# Altium integrated library AD DSP 16-Bit.IntLib: 146 symbols (part 6 of 7)
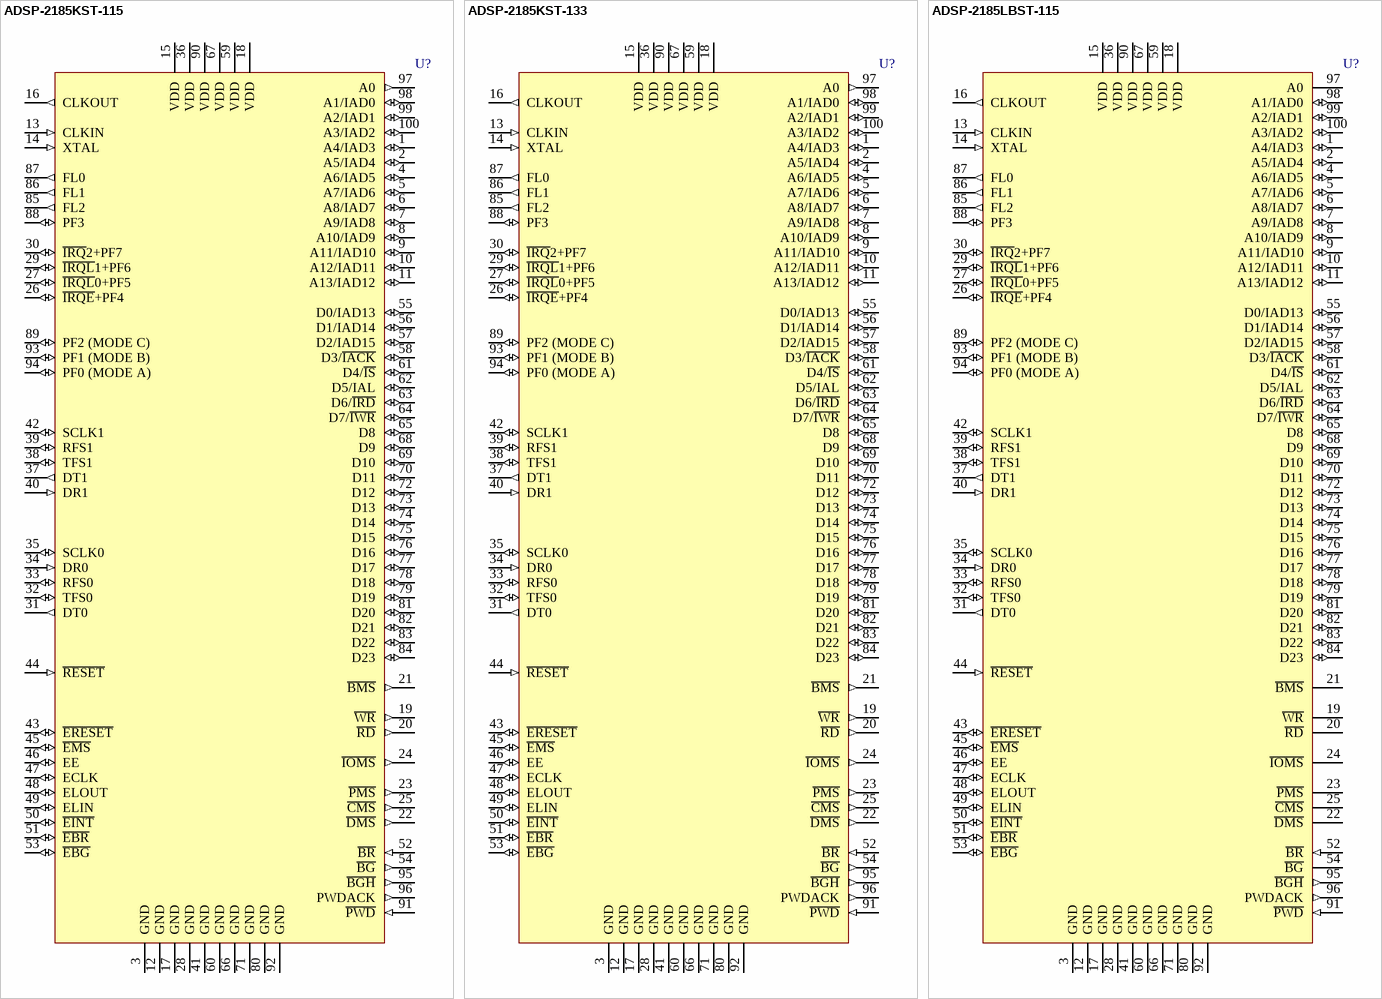
[diagram p50: symbols ADSP-2185KST-115 to ADSP-2185LBST-115]

## ADSP-2185KST-115
designator U?
33 MIPS, 5V, 2 Serial Ports, Host Port, 80 KB RAM; Published: 24-Aug-2001; LatestRevisionDate: 13-Apr-2006; LatestRevisionNote: IPC-7351 Footprint Added.; DatasheetVersion: 1997; PackageVersion: 2000; PackageReference: ST-100; Publisher: Altium Limited; PackageDescription: 100-Pin Thin Plastic Quad Flat Pack 0.5 mm Pitch; ComponentLink1Description: Manufacturer Link; ComponentLink1URL: http://www.analog.com/
footprint ST-100_N (Thin QFP, 100-Leads, Body 14x14mm, Pitch 0.5mm, IPC Medium Density)
footprint ST-100_L (Thin QFP, 100-Leads, Body 14x14mm, Pitch 0.5mm, IPC High Density)
footprint ST-100_M (Thin QFP, 100-Leads, Body 14x14mm, Pitch 0.5mm, IPC Low Density)
3D model 2185-ST100 (100-Pin Thin Plastic Quad Flat Pack 0.5 mm Pitch)
pins: 1 A4/IAD3 (io), 2 A5/IAD4 (io), 3 GND (power), 4 A6/IAD5 (io), 5 A7/IAD6 (io), 6 A8/IAD7 (io), 7 A9/IAD8 (io), 8 A10/IAD9 (io), 9 A11/IAD10 (io), 10 A12/IAD11 (io), 11 A13/IAD12 (io), 12 GND (power), 13 CLKIN (in), 14 XTAL (in), 15 VDD (power), 16 CLKOUT (out), 17 GND (power), 18 VDD (power), 19 ~{WR} (out), 20 ~{RD} (out), 21 ~{BMS} (out), 22 ~{DMS} (out), 23 ~{PMS} (out), 24 ~{IOMS} (out), 25 ~{CMS} (out), 26 ~{IRQE}+PF4 (io), 27 ~{IRQL}0+PF5 (io), 28 GND (power), 29 ~{IRQL}1+PF6 (io), 30 ~{IRQ}2+PF7 (io), 31 DT0 (out), 32 TFS0 (io), 33 RFS0 (io), 34 DR0 (in), 35 SCLK0 (io), 36 VDD (power), 37 DT1 (out), 38 TFS1 (io), 39 RFS1 (io), 40 DR1 (in), 41 GND (power), 42 SCLK1 (io), 43 ~{ERESET} (io), 44 ~{RESET} (in), 45 ~{EMS} (io), 46 EE (io), 47 ECLK (io), 48 ELOUT (io), 49 ELIN (io), 50 ~{EINT} (io), 51 ~{EBR} (io), 52 ~{BR} (in), 53 ~{EBG} (io), 54 ~{BG} (out), 55 D0/IAD13 (io), 56 D1/IAD14 (io), 57 D2/IAD15 (io), 58 D3/~{IACK} (io), 59 VDD (power), 60 GND (power), 61 D4/~{IS} (io), 62 D5/IAL (io), 63 D6/~{IRD} (io), 64 D7/~{IWR} (io), 65 D8 (io), 66 GND (power), 67 VDD (power), 68 D9 (io), 69 D10 (io), 70 D11 (io), 71 GND (power), 72 D12 (io), 73 D13 (io), 74 D14 (io), 75 D15 (io), 76 D16 (io), 77 D17 (io), 78 D18 (io), 79 D19 (io), 80 GND (power), 81 D20 (io), 82 D21 (io), 83 D22 (io), 84 D23 (io), 85 FL2 (out), 86 FL1 (out), 87 FL0 (out), 88 PF3 (io), 89 PF2 (MODE C) (io), 90 VDD (power), 91 ~{PWD} (in), 92 GND (power), 93 PF1 (MODE B) (io), 94 PF0 (MODE A) (io), 95 ~{BGH} (out), 96 PWDACK (out), 97 A0 (out), 98 A1/IAD0 (io), 99 A2/IAD1 (io), 100 A3/IAD2 (io)

## ADSP-2185KST-133
designator U?
33 MIPS, 5V, 2 Serial Ports, Host Port, 80 KB RAM; Published: 24-Aug-2001; LatestRevisionDate: 13-Apr-2006; LatestRevisionNote: IPC-7351 Footprint Added.; DatasheetVersion: 1997; PackageVersion: 2000; PackageReference: ST-100; Publisher: Altium Limited; PackageDescription: 100-Pin Thin Plastic Quad Flat Pack 0.5 mm Pitch; ComponentLink1Description: Manufacturer Link; ComponentLink1URL: http://www.analog.com/
footprint ST-100_N (Thin QFP, 100-Leads, Body 14x14mm, Pitch 0.5mm, IPC Medium Density)
footprint ST-100_L (Thin QFP, 100-Leads, Body 14x14mm, Pitch 0.5mm, IPC High Density)
footprint ST-100_M (Thin QFP, 100-Leads, Body 14x14mm, Pitch 0.5mm, IPC Low Density)
3D model 2185-ST100 (100-Pin Thin Plastic Quad Flat Pack 0.5 mm Pitch)
pins: 1 A4/IAD3 (io), 2 A5/IAD4 (io), 3 GND (power), 4 A6/IAD5 (io), 5 A7/IAD6 (io), 6 A8/IAD7 (io), 7 A9/IAD8 (io), 8 A10/IAD9 (io), 9 A11/IAD10 (io), 10 A12/IAD11 (io), 11 A13/IAD12 (io), 12 GND (power), 13 CLKIN (in), 14 XTAL (in), 15 VDD (power), 16 CLKOUT (out), 17 GND (power), 18 VDD (power), 19 ~{WR} (out), 20 ~{RD} (out), 21 ~{BMS} (out), 22 ~{DMS} (out), 23 ~{PMS} (out), 24 ~{IOMS} (out), 25 ~{CMS} (out), 26 ~{IRQE}+PF4 (io), 27 ~{IRQL}0+PF5 (io), 28 GND (power), 29 ~{IRQL}1+PF6 (io), 30 ~{IRQ}2+PF7 (io), 31 DT0 (out), 32 TFS0 (io), 33 RFS0 (io), 34 DR0 (in), 35 SCLK0 (io), 36 VDD (power), 37 DT1 (out), 38 TFS1 (io), 39 RFS1 (io), 40 DR1 (in), 41 GND (power), 42 SCLK1 (io), 43 ~{ERESET} (io), 44 ~{RESET} (in), 45 ~{EMS} (io), 46 EE (io), 47 ECLK (io), 48 ELOUT (io), 49 ELIN (io), 50 ~{EINT} (io), 51 ~{EBR} (io), 52 ~{BR} (in), 53 ~{EBG} (io), 54 ~{BG} (out), 55 D0/IAD13 (io), 56 D1/IAD14 (io), 57 D2/IAD15 (io), 58 D3/~{IACK} (io), 59 VDD (power), 60 GND (power), 61 D4/~{IS} (io), 62 D5/IAL (io), 63 D6/~{IRD} (io), 64 D7/~{IWR} (io), 65 D8 (io), 66 GND (power), 67 VDD (power), 68 D9 (io), 69 D10 (io), 70 D11 (io), 71 GND (power), 72 D12 (io), 73 D13 (io), 74 D14 (io), 75 D15 (io), 76 D16 (io), 77 D17 (io), 78 D18 (io), 79 D19 (io), 80 GND (power), 81 D20 (io), 82 D21 (io), 83 D22 (io), 84 D23 (io), 85 FL2 (out), 86 FL1 (out), 87 FL0 (out), 88 PF3 (io), 89 PF2 (MODE C) (io), 90 VDD (power), 91 ~{PWD} (in), 92 GND (power), 93 PF1 (MODE B) (io), 94 PF0 (MODE A) (io), 95 ~{BGH} (out), 96 PWDACK (out), 97 A0 (out), 98 A1/IAD0 (io), 99 A2/IAD1 (io), 100 A3/IAD2 (io)

## ADSP-2185LBST-115
designator U?
52 MIPS, 3.3V, 2 Serial Ports, Host Port, 80 KB RAM; Published: 24-Aug-2001; LatestRevisionDate: 13-Apr-2006; LatestRevisionNote: IPC-7351 Footprint Added.; DatasheetVersion: 1998; PackageVersion: 2000; PackageReference: ST-100; Publisher: Altium Limited; PackageDescription: 100-Pin Thin Plastic Quad Flat Pack 0.5 mm Pitch; ComponentLink1Description: Manufacturer Link; ComponentLink1URL: http://www.analog.com/; ComponentLink2Description: Datasheet; ComponentLink2URL: http://www.analog.com/UploadedFiles/Data_Sheets/131820591231341383244687ADSP_2185L_a.pdf
footprint ST-100_N (Thin QFP, 100-Leads, Body 14x14mm, Pitch 0.5mm, IPC Medium Density)
footprint ST-100_L (Thin QFP, 100-Leads, Body 14x14mm, Pitch 0.5mm, IPC High Density)
footprint ST-100_M (Thin QFP, 100-Leads, Body 14x14mm, Pitch 0.5mm, IPC Low Density)
3D model 2185L-ST100 (100-Pin Thin Plastic Quad Flat Pack 0.5 mm Pitch)
pins: 1 A4/IAD3 (io), 2 A5/IAD4 (io), 3 GND (power), 4 A6/IAD5 (io), 5 A7/IAD6 (io), 6 A8/IAD7 (io), 7 A9/IAD8 (io), 8 A10/IAD9 (io), 9 A11/IAD10 (io), 10 A12/IAD11 (io), 11 A13/IAD12 (io), 12 GND (power), 13 CLKIN (in), 14 XTAL (in), 15 VDD (power), 16 CLKOUT (out), 17 GND (power), 18 VDD (power), 19 ~{WR} (hiz), 20 ~{RD} (hiz), 21 ~{BMS} (hiz), 22 ~{DMS} (hiz), 23 ~{PMS} (hiz), 24 ~{IOMS} (hiz), 25 ~{CMS} (hiz), 26 ~{IRQE}+PF4 (io), 27 ~{IRQL}0+PF5 (io), 28 GND (power), 29 ~{IRQL}1+PF6 (io), 30 ~{IRQ}2+PF7 (io), 31 DT0 (out), 32 TFS0 (io), 33 RFS0 (io), 34 DR0 (in), 35 SCLK0 (io), 36 VDD (power), 37 DT1 (out), 38 TFS1 (io), 39 RFS1 (io), 40 DR1 (in), 41 GND (power), 42 SCLK1 (io), 43 ~{ERESET} (io), 44 ~{RESET} (in), 45 ~{EMS} (io), 46 EE (io), 47 ECLK (io), 48 ELOUT (io), 49 ELIN (io), 50 ~{EINT} (io), 51 ~{EBR} (io), 52 ~{BR} (in), 53 ~{EBG} (io), 54 ~{BG} (hiz), 55 D0/IAD13 (io), 56 D1/IAD14 (io), 57 D2/IAD15 (io), 58 D3/~{IACK} (io), 59 VDD (power), 60 GND (power), 61 D4/~{IS} (io), 62 D5/IAL (io), 63 D6/~{IRD} (io), 64 D7/~{IWR} (io), 65 D8 (io), 66 GND (power), 67 VDD (power), 68 D9 (io), 69 D10 (io), 70 D11 (io), 71 GND (power), 72 D12 (io), 73 D13 (io), 74 D14 (io), 75 D15 (io), 76 D16 (io), 77 D17 (io), 78 D18 (io), 79 D19 (io), 80 GND (power), 81 D20 (io), 82 D21 (io), 83 D22 (io), 84 D23 (io), 85 FL2 (out), 86 FL1 (out), 87 FL0 (out), 88 PF3 (io), 89 PF2 (MODE C) (io), 90 VDD (power), 91 ~{PWD} (in), 92 GND (power), 93 PF1 (MODE B) (io), 94 PF0 (MODE A) (io), 95 ~{BGH} (out), 96 PWDACK (out), 97 A0 (hiz), 98 A1/IAD0 (io), 99 A2/IAD1 (io), 100 A3/IAD2 (io)

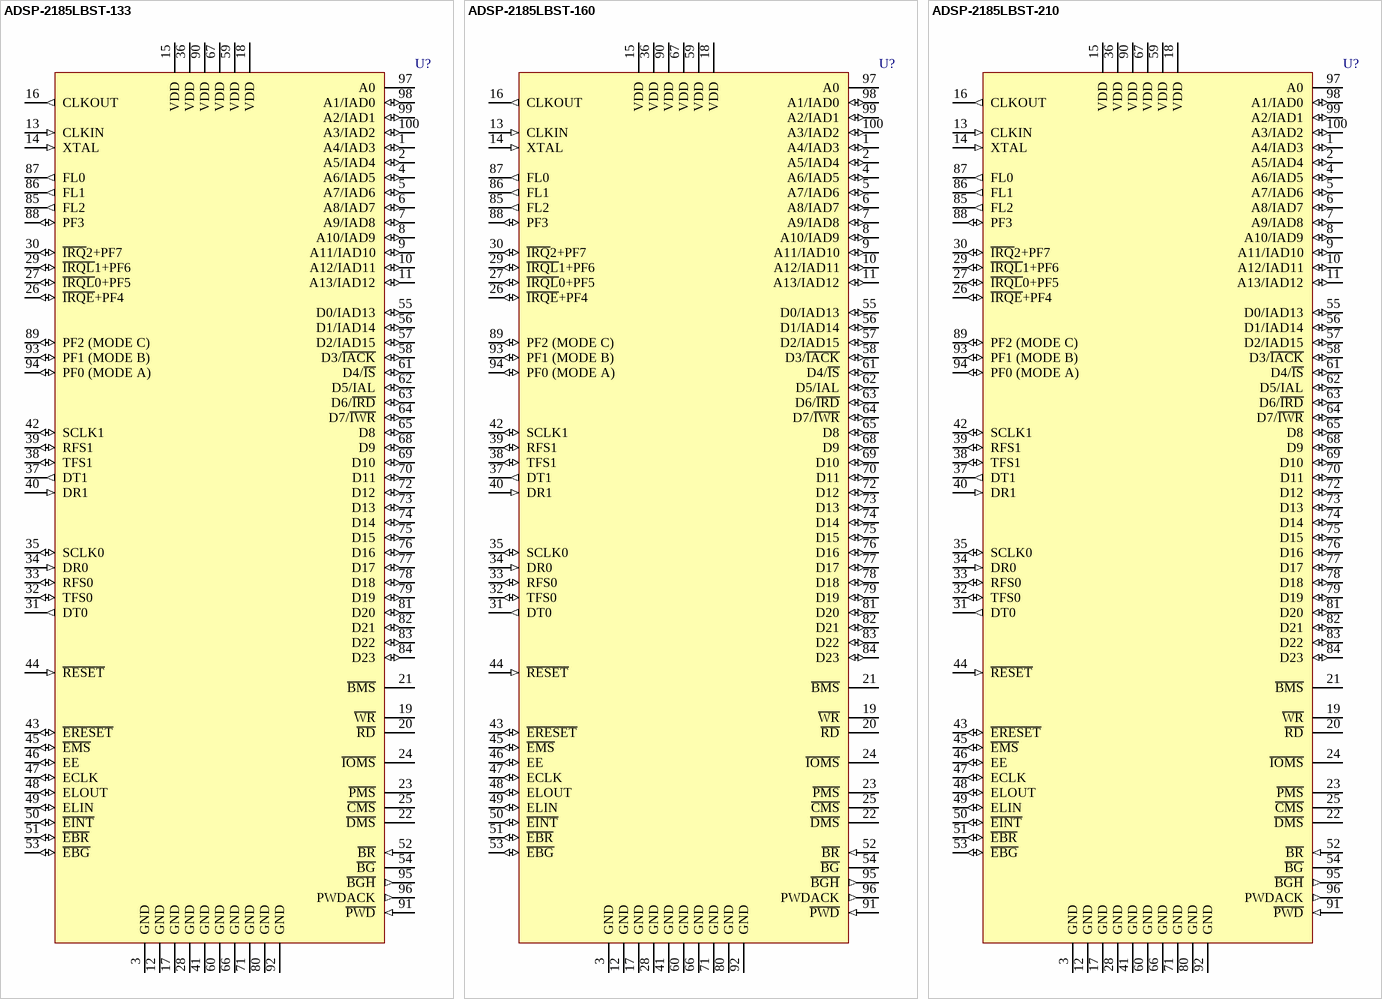
[diagram p33: symbols ADSP-2185LBST-133 to ADSP-2185LBST-210]

## ADSP-2185LBST-133
designator U?
52 MIPS, 3.3V, 2 Serial Ports, Host Port, 80 KB RAM; Published: 24-Aug-2001; LatestRevisionDate: 13-Apr-2006; LatestRevisionNote: IPC-7351 Footprint Added.; DatasheetVersion: 1998; PackageVersion: 2000; PackageReference: ST-100; Publisher: Altium Limited; PackageDescription: 100-Pin Thin Plastic Quad Flat Pack 0.5 mm Pitch; ComponentLink1Description: Manufacturer Link; ComponentLink1URL: http://www.analog.com/; ComponentLink2Description: Datasheet; ComponentLink2URL: http://www.analog.com/UploadedFiles/Data_Sheets/131820591231341383244687ADSP_2185L_a.pdf
footprint ST-100_N (Thin QFP, 100-Leads, Body 14x14mm, Pitch 0.5mm, IPC Medium Density)
footprint ST-100_L (Thin QFP, 100-Leads, Body 14x14mm, Pitch 0.5mm, IPC High Density)
footprint ST-100_M (Thin QFP, 100-Leads, Body 14x14mm, Pitch 0.5mm, IPC Low Density)
3D model 2185L-ST100 (100-Pin Thin Plastic Quad Flat Pack 0.5 mm Pitch)
pins: 1 A4/IAD3 (io), 2 A5/IAD4 (io), 3 GND (power), 4 A6/IAD5 (io), 5 A7/IAD6 (io), 6 A8/IAD7 (io), 7 A9/IAD8 (io), 8 A10/IAD9 (io), 9 A11/IAD10 (io), 10 A12/IAD11 (io), 11 A13/IAD12 (io), 12 GND (power), 13 CLKIN (in), 14 XTAL (in), 15 VDD (power), 16 CLKOUT (out), 17 GND (power), 18 VDD (power), 19 ~{WR} (hiz), 20 ~{RD} (hiz), 21 ~{BMS} (hiz), 22 ~{DMS} (hiz), 23 ~{PMS} (hiz), 24 ~{IOMS} (hiz), 25 ~{CMS} (hiz), 26 ~{IRQE}+PF4 (io), 27 ~{IRQL}0+PF5 (io), 28 GND (power), 29 ~{IRQL}1+PF6 (io), 30 ~{IRQ}2+PF7 (io), 31 DT0 (out), 32 TFS0 (io), 33 RFS0 (io), 34 DR0 (in), 35 SCLK0 (io), 36 VDD (power), 37 DT1 (out), 38 TFS1 (io), 39 RFS1 (io), 40 DR1 (in), 41 GND (power), 42 SCLK1 (io), 43 ~{ERESET} (io), 44 ~{RESET} (in), 45 ~{EMS} (io), 46 EE (io), 47 ECLK (io), 48 ELOUT (io), 49 ELIN (io), 50 ~{EINT} (io), 51 ~{EBR} (io), 52 ~{BR} (in), 53 ~{EBG} (io), 54 ~{BG} (hiz), 55 D0/IAD13 (io), 56 D1/IAD14 (io), 57 D2/IAD15 (io), 58 D3/~{IACK} (io), 59 VDD (power), 60 GND (power), 61 D4/~{IS} (io), 62 D5/IAL (io), 63 D6/~{IRD} (io), 64 D7/~{IWR} (io), 65 D8 (io), 66 GND (power), 67 VDD (power), 68 D9 (io), 69 D10 (io), 70 D11 (io), 71 GND (power), 72 D12 (io), 73 D13 (io), 74 D14 (io), 75 D15 (io), 76 D16 (io), 77 D17 (io), 78 D18 (io), 79 D19 (io), 80 GND (power), 81 D20 (io), 82 D21 (io), 83 D22 (io), 84 D23 (io), 85 FL2 (out), 86 FL1 (out), 87 FL0 (out), 88 PF3 (io), 89 PF2 (MODE C) (io), 90 VDD (power), 91 ~{PWD} (in), 92 GND (power), 93 PF1 (MODE B) (io), 94 PF0 (MODE A) (io), 95 ~{BGH} (out), 96 PWDACK (out), 97 A0 (hiz), 98 A1/IAD0 (io), 99 A2/IAD1 (io), 100 A3/IAD2 (io)

## ADSP-2185LBST-160
designator U?
52 MIPS, 3.3V, 2 Serial Ports, Host Port, 80 KB RAM; Published: 24-Aug-2001; LatestRevisionDate: 13-Apr-2006; LatestRevisionNote: IPC-7351 Footprint Added.; DatasheetVersion: 1998; PackageVersion: 2000; PackageReference: ST-100; Publisher: Altium Limited; PackageDescription: 100-Pin Thin Plastic Quad Flat Pack 0.5 mm Pitch; ComponentLink1Description: Manufacturer Link; ComponentLink1URL: http://www.analog.com/; ComponentLink2Description: Datasheet; ComponentLink2URL: http://www.analog.com/UploadedFiles/Data_Sheets/131820591231341383244687ADSP_2185L_a.pdf
footprint ST-100_N (Thin QFP, 100-Leads, Body 14x14mm, Pitch 0.5mm, IPC Medium Density)
footprint ST-100_L (Thin QFP, 100-Leads, Body 14x14mm, Pitch 0.5mm, IPC High Density)
footprint ST-100_M (Thin QFP, 100-Leads, Body 14x14mm, Pitch 0.5mm, IPC Low Density)
3D model 2185L-ST100 (100-Pin Thin Plastic Quad Flat Pack 0.5 mm Pitch)
pins: 1 A4/IAD3 (io), 2 A5/IAD4 (io), 3 GND (power), 4 A6/IAD5 (io), 5 A7/IAD6 (io), 6 A8/IAD7 (io), 7 A9/IAD8 (io), 8 A10/IAD9 (io), 9 A11/IAD10 (io), 10 A12/IAD11 (io), 11 A13/IAD12 (io), 12 GND (power), 13 CLKIN (in), 14 XTAL (in), 15 VDD (power), 16 CLKOUT (out), 17 GND (power), 18 VDD (power), 19 ~{WR} (hiz), 20 ~{RD} (hiz), 21 ~{BMS} (hiz), 22 ~{DMS} (hiz), 23 ~{PMS} (hiz), 24 ~{IOMS} (hiz), 25 ~{CMS} (hiz), 26 ~{IRQE}+PF4 (io), 27 ~{IRQL}0+PF5 (io), 28 GND (power), 29 ~{IRQL}1+PF6 (io), 30 ~{IRQ}2+PF7 (io), 31 DT0 (out), 32 TFS0 (io), 33 RFS0 (io), 34 DR0 (in), 35 SCLK0 (io), 36 VDD (power), 37 DT1 (out), 38 TFS1 (io), 39 RFS1 (io), 40 DR1 (in), 41 GND (power), 42 SCLK1 (io), 43 ~{ERESET} (io), 44 ~{RESET} (in), 45 ~{EMS} (io), 46 EE (io), 47 ECLK (io), 48 ELOUT (io), 49 ELIN (io), 50 ~{EINT} (io), 51 ~{EBR} (io), 52 ~{BR} (in), 53 ~{EBG} (io), 54 ~{BG} (hiz), 55 D0/IAD13 (io), 56 D1/IAD14 (io), 57 D2/IAD15 (io), 58 D3/~{IACK} (io), 59 VDD (power), 60 GND (power), 61 D4/~{IS} (io), 62 D5/IAL (io), 63 D6/~{IRD} (io), 64 D7/~{IWR} (io), 65 D8 (io), 66 GND (power), 67 VDD (power), 68 D9 (io), 69 D10 (io), 70 D11 (io), 71 GND (power), 72 D12 (io), 73 D13 (io), 74 D14 (io), 75 D15 (io), 76 D16 (io), 77 D17 (io), 78 D18 (io), 79 D19 (io), 80 GND (power), 81 D20 (io), 82 D21 (io), 83 D22 (io), 84 D23 (io), 85 FL2 (out), 86 FL1 (out), 87 FL0 (out), 88 PF3 (io), 89 PF2 (MODE C) (io), 90 VDD (power), 91 ~{PWD} (in), 92 GND (power), 93 PF1 (MODE B) (io), 94 PF0 (MODE A) (io), 95 ~{BGH} (out), 96 PWDACK (out), 97 A0 (hiz), 98 A1/IAD0 (io), 99 A2/IAD1 (io), 100 A3/IAD2 (io)

## ADSP-2185LBST-210
designator U?
52 MIPS, 3.3V, 2 Serial Ports, Host Port, 80 KB RAM; Published: 24-Aug-2001; LatestRevisionDate: 13-Apr-2006; LatestRevisionNote: IPC-7351 Footprint Added.; DatasheetVersion: 1998; PackageVersion: 2000; PackageReference: ST-100; Publisher: Altium Limited; PackageDescription: 100-Pin Thin Plastic Quad Flat Pack 0.5 mm Pitch; ComponentLink1Description: Manufacturer Link; ComponentLink1URL: http://www.analog.com/; ComponentLink2Description: Datasheet; ComponentLink2URL: http://www.analog.com/UploadedFiles/Data_Sheets/131820591231341383244687ADSP_2185L_a.pdf
footprint ST-100_N (Thin QFP, 100-Leads, Body 14x14mm, Pitch 0.5mm, IPC Medium Density)
footprint ST-100_L (Thin QFP, 100-Leads, Body 14x14mm, Pitch 0.5mm, IPC High Density)
footprint ST-100_M (Thin QFP, 100-Leads, Body 14x14mm, Pitch 0.5mm, IPC Low Density)
3D model 2185L-ST100 (100-Pin Thin Plastic Quad Flat Pack 0.5 mm Pitch)
pins: 1 A4/IAD3 (io), 2 A5/IAD4 (io), 3 GND (power), 4 A6/IAD5 (io), 5 A7/IAD6 (io), 6 A8/IAD7 (io), 7 A9/IAD8 (io), 8 A10/IAD9 (io), 9 A11/IAD10 (io), 10 A12/IAD11 (io), 11 A13/IAD12 (io), 12 GND (power), 13 CLKIN (in), 14 XTAL (in), 15 VDD (power), 16 CLKOUT (out), 17 GND (power), 18 VDD (power), 19 ~{WR} (hiz), 20 ~{RD} (hiz), 21 ~{BMS} (hiz), 22 ~{DMS} (hiz), 23 ~{PMS} (hiz), 24 ~{IOMS} (hiz), 25 ~{CMS} (hiz), 26 ~{IRQE}+PF4 (io), 27 ~{IRQL}0+PF5 (io), 28 GND (power), 29 ~{IRQL}1+PF6 (io), 30 ~{IRQ}2+PF7 (io), 31 DT0 (out), 32 TFS0 (io), 33 RFS0 (io), 34 DR0 (in), 35 SCLK0 (io), 36 VDD (power), 37 DT1 (out), 38 TFS1 (io), 39 RFS1 (io), 40 DR1 (in), 41 GND (power), 42 SCLK1 (io), 43 ~{ERESET} (io), 44 ~{RESET} (in), 45 ~{EMS} (io), 46 EE (io), 47 ECLK (io), 48 ELOUT (io), 49 ELIN (io), 50 ~{EINT} (io), 51 ~{EBR} (io), 52 ~{BR} (in), 53 ~{EBG} (io), 54 ~{BG} (hiz), 55 D0/IAD13 (io), 56 D1/IAD14 (io), 57 D2/IAD15 (io), 58 D3/~{IACK} (io), 59 VDD (power), 60 GND (power), 61 D4/~{IS} (io), 62 D5/IAL (io), 63 D6/~{IRD} (io), 64 D7/~{IWR} (io), 65 D8 (io), 66 GND (power), 67 VDD (power), 68 D9 (io), 69 D10 (io), 70 D11 (io), 71 GND (power), 72 D12 (io), 73 D13 (io), 74 D14 (io), 75 D15 (io), 76 D16 (io), 77 D17 (io), 78 D18 (io), 79 D19 (io), 80 GND (power), 81 D20 (io), 82 D21 (io), 83 D22 (io), 84 D23 (io), 85 FL2 (out), 86 FL1 (out), 87 FL0 (out), 88 PF3 (io), 89 PF2 (MODE C) (io), 90 VDD (power), 91 ~{PWD} (in), 92 GND (power), 93 PF1 (MODE B) (io), 94 PF0 (MODE A) (io), 95 ~{BGH} (out), 96 PWDACK (out), 97 A0 (hiz), 98 A1/IAD0 (io), 99 A2/IAD1 (io), 100 A3/IAD2 (io)

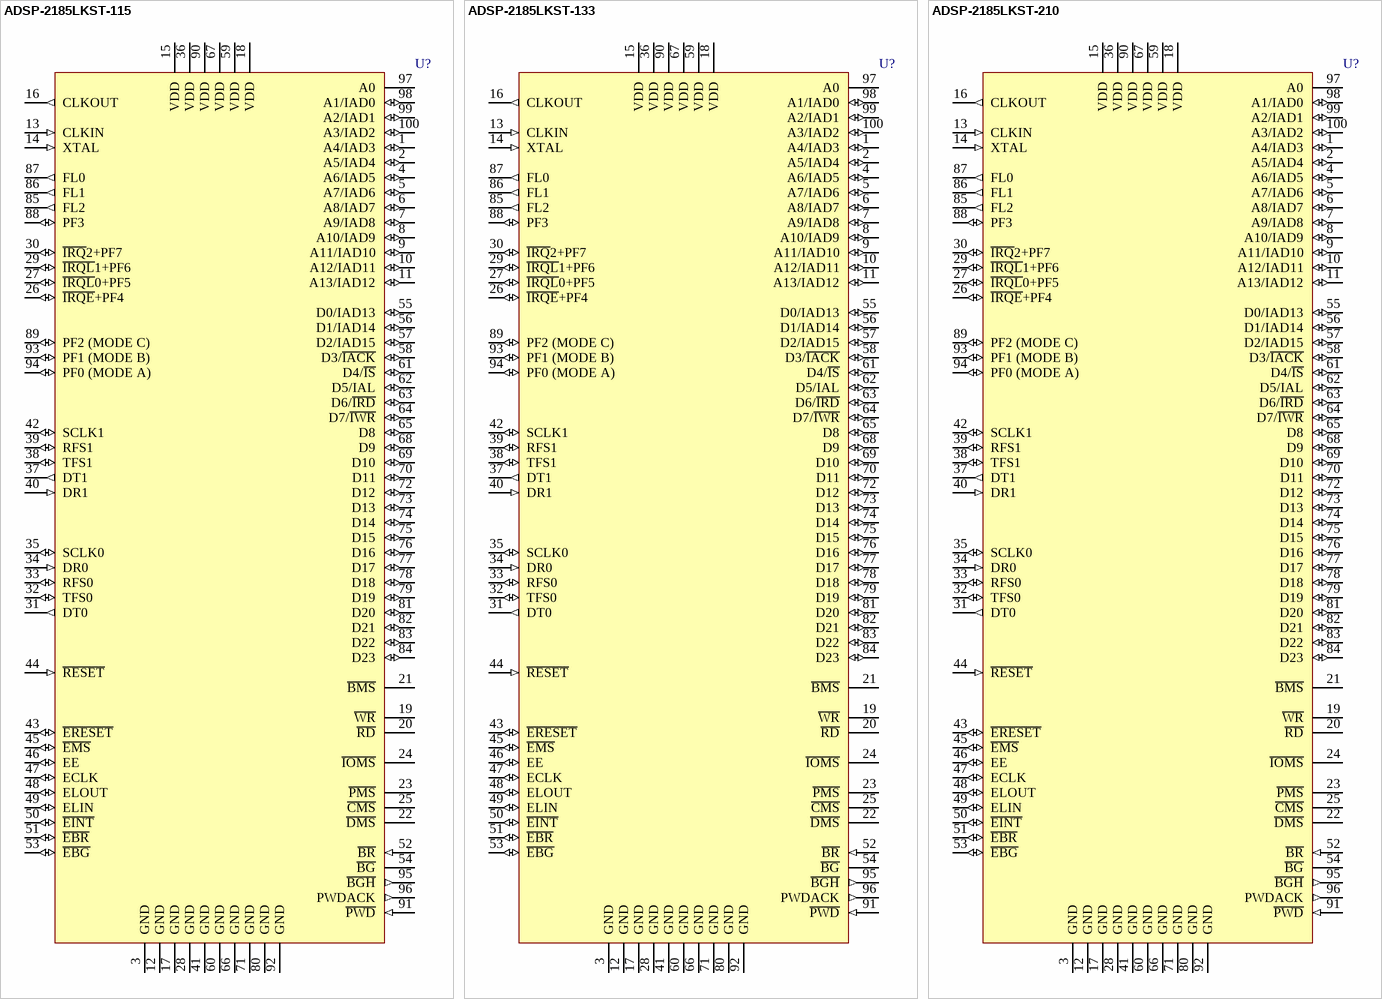
[diagram p34: symbols ADSP-2185LKST-115 to ADSP-2185LKST-210]

## ADSP-2185LKST-115
designator U?
52 MIPS, 3.3V, 2 Serial Ports, Host Port, 80 KB RAM; Published: 24-Aug-2001; LatestRevisionDate: 13-Apr-2006; LatestRevisionNote: IPC-7351 Footprint Added.; DatasheetVersion: 1998; PackageVersion: 2000; PackageReference: ST-100; Publisher: Altium Limited; PackageDescription: 100-Pin Thin Plastic Quad Flat Pack 0.5 mm Pitch; ComponentLink1Description: Manufacturer Link; ComponentLink1URL: http://www.analog.com/; ComponentLink2Description: Datasheet; ComponentLink2URL: http://www.analog.com/UploadedFiles/Data_Sheets/131820591231341383244687ADSP_2185L_a.pdf
footprint ST-100_N (Thin QFP, 100-Leads, Body 14x14mm, Pitch 0.5mm, IPC Medium Density)
footprint ST-100_L (Thin QFP, 100-Leads, Body 14x14mm, Pitch 0.5mm, IPC High Density)
footprint ST-100_M (Thin QFP, 100-Leads, Body 14x14mm, Pitch 0.5mm, IPC Low Density)
3D model 2185L-ST100 (100-Pin Thin Plastic Quad Flat Pack 0.5 mm Pitch)
pins: 1 A4/IAD3 (io), 2 A5/IAD4 (io), 3 GND (power), 4 A6/IAD5 (io), 5 A7/IAD6 (io), 6 A8/IAD7 (io), 7 A9/IAD8 (io), 8 A10/IAD9 (io), 9 A11/IAD10 (io), 10 A12/IAD11 (io), 11 A13/IAD12 (io), 12 GND (power), 13 CLKIN (in), 14 XTAL (in), 15 VDD (power), 16 CLKOUT (out), 17 GND (power), 18 VDD (power), 19 ~{WR} (hiz), 20 ~{RD} (hiz), 21 ~{BMS} (hiz), 22 ~{DMS} (hiz), 23 ~{PMS} (hiz), 24 ~{IOMS} (hiz), 25 ~{CMS} (hiz), 26 ~{IRQE}+PF4 (io), 27 ~{IRQL}0+PF5 (io), 28 GND (power), 29 ~{IRQL}1+PF6 (io), 30 ~{IRQ}2+PF7 (io), 31 DT0 (out), 32 TFS0 (io), 33 RFS0 (io), 34 DR0 (in), 35 SCLK0 (io), 36 VDD (power), 37 DT1 (out), 38 TFS1 (io), 39 RFS1 (io), 40 DR1 (in), 41 GND (power), 42 SCLK1 (io), 43 ~{ERESET} (io), 44 ~{RESET} (in), 45 ~{EMS} (io), 46 EE (io), 47 ECLK (io), 48 ELOUT (io), 49 ELIN (io), 50 ~{EINT} (io), 51 ~{EBR} (io), 52 ~{BR} (in), 53 ~{EBG} (io), 54 ~{BG} (hiz), 55 D0/IAD13 (io), 56 D1/IAD14 (io), 57 D2/IAD15 (io), 58 D3/~{IACK} (io), 59 VDD (power), 60 GND (power), 61 D4/~{IS} (io), 62 D5/IAL (io), 63 D6/~{IRD} (io), 64 D7/~{IWR} (io), 65 D8 (io), 66 GND (power), 67 VDD (power), 68 D9 (io), 69 D10 (io), 70 D11 (io), 71 GND (power), 72 D12 (io), 73 D13 (io), 74 D14 (io), 75 D15 (io), 76 D16 (io), 77 D17 (io), 78 D18 (io), 79 D19 (io), 80 GND (power), 81 D20 (io), 82 D21 (io), 83 D22 (io), 84 D23 (io), 85 FL2 (out), 86 FL1 (out), 87 FL0 (out), 88 PF3 (io), 89 PF2 (MODE C) (io), 90 VDD (power), 91 ~{PWD} (in), 92 GND (power), 93 PF1 (MODE B) (io), 94 PF0 (MODE A) (io), 95 ~{BGH} (out), 96 PWDACK (out), 97 A0 (hiz), 98 A1/IAD0 (io), 99 A2/IAD1 (io), 100 A3/IAD2 (io)

## ADSP-2185LKST-133
designator U?
52 MIPS, 3.3V, 2 Serial Ports, Host Port, 80 KB RAM; Published: 24-Aug-2001; LatestRevisionDate: 13-Apr-2006; LatestRevisionNote: IPC-7351 Footprint Added.; DatasheetVersion: 1998; PackageVersion: 2000; PackageReference: ST-100; Publisher: Altium Limited; PackageDescription: 100-Pin Thin Plastic Quad Flat Pack 0.5 mm Pitch; ComponentLink1Description: Manufacturer Link; ComponentLink1URL: http://www.analog.com/; ComponentLink2Description: Datasheet; ComponentLink2URL: http://www.analog.com/UploadedFiles/Data_Sheets/131820591231341383244687ADSP_2185L_a.pdf
footprint ST-100_N (Thin QFP, 100-Leads, Body 14x14mm, Pitch 0.5mm, IPC Medium Density)
footprint ST-100_L (Thin QFP, 100-Leads, Body 14x14mm, Pitch 0.5mm, IPC High Density)
footprint ST-100_M (Thin QFP, 100-Leads, Body 14x14mm, Pitch 0.5mm, IPC Low Density)
3D model 2185L-ST100 (100-Pin Thin Plastic Quad Flat Pack 0.5 mm Pitch)
pins: 1 A4/IAD3 (io), 2 A5/IAD4 (io), 3 GND (power), 4 A6/IAD5 (io), 5 A7/IAD6 (io), 6 A8/IAD7 (io), 7 A9/IAD8 (io), 8 A10/IAD9 (io), 9 A11/IAD10 (io), 10 A12/IAD11 (io), 11 A13/IAD12 (io), 12 GND (power), 13 CLKIN (in), 14 XTAL (in), 15 VDD (power), 16 CLKOUT (out), 17 GND (power), 18 VDD (power), 19 ~{WR} (hiz), 20 ~{RD} (hiz), 21 ~{BMS} (hiz), 22 ~{DMS} (hiz), 23 ~{PMS} (hiz), 24 ~{IOMS} (hiz), 25 ~{CMS} (hiz), 26 ~{IRQE}+PF4 (io), 27 ~{IRQL}0+PF5 (io), 28 GND (power), 29 ~{IRQL}1+PF6 (io), 30 ~{IRQ}2+PF7 (io), 31 DT0 (out), 32 TFS0 (io), 33 RFS0 (io), 34 DR0 (in), 35 SCLK0 (io), 36 VDD (power), 37 DT1 (out), 38 TFS1 (io), 39 RFS1 (io), 40 DR1 (in), 41 GND (power), 42 SCLK1 (io), 43 ~{ERESET} (io), 44 ~{RESET} (in), 45 ~{EMS} (io), 46 EE (io), 47 ECLK (io), 48 ELOUT (io), 49 ELIN (io), 50 ~{EINT} (io), 51 ~{EBR} (io), 52 ~{BR} (in), 53 ~{EBG} (io), 54 ~{BG} (hiz), 55 D0/IAD13 (io), 56 D1/IAD14 (io), 57 D2/IAD15 (io), 58 D3/~{IACK} (io), 59 VDD (power), 60 GND (power), 61 D4/~{IS} (io), 62 D5/IAL (io), 63 D6/~{IRD} (io), 64 D7/~{IWR} (io), 65 D8 (io), 66 GND (power), 67 VDD (power), 68 D9 (io), 69 D10 (io), 70 D11 (io), 71 GND (power), 72 D12 (io), 73 D13 (io), 74 D14 (io), 75 D15 (io), 76 D16 (io), 77 D17 (io), 78 D18 (io), 79 D19 (io), 80 GND (power), 81 D20 (io), 82 D21 (io), 83 D22 (io), 84 D23 (io), 85 FL2 (out), 86 FL1 (out), 87 FL0 (out), 88 PF3 (io), 89 PF2 (MODE C) (io), 90 VDD (power), 91 ~{PWD} (in), 92 GND (power), 93 PF1 (MODE B) (io), 94 PF0 (MODE A) (io), 95 ~{BGH} (out), 96 PWDACK (out), 97 A0 (hiz), 98 A1/IAD0 (io), 99 A2/IAD1 (io), 100 A3/IAD2 (io)

## ADSP-2185LKST-210
designator U?
52 MIPS, 3.3V, 2 Serial Ports, Host Port, 80 KB RAM; Published: 24-Aug-2001; LatestRevisionDate: 13-Apr-2006; LatestRevisionNote: IPC-7351 Footprint Added.; DatasheetVersion: 1998; PackageVersion: 2000; PackageReference: ST-100; Publisher: Altium Limited; PackageDescription: 100-Pin Thin Plastic Quad Flat Pack 0.5 mm Pitch; ComponentLink1Description: Manufacturer Link; ComponentLink1URL: http://www.analog.com/; ComponentLink2Description: Datasheet; ComponentLink2URL: http://www.analog.com/UploadedFiles/Data_Sheets/131820591231341383244687ADSP_2185L_a.pdf
footprint ST-100_N (Thin QFP, 100-Leads, Body 14x14mm, Pitch 0.5mm, IPC Medium Density)
footprint ST-100_L (Thin QFP, 100-Leads, Body 14x14mm, Pitch 0.5mm, IPC High Density)
footprint ST-100_M (Thin QFP, 100-Leads, Body 14x14mm, Pitch 0.5mm, IPC Low Density)
3D model 2185L-ST100 (100-Pin Thin Plastic Quad Flat Pack 0.5 mm Pitch)
pins: 1 A4/IAD3 (io), 2 A5/IAD4 (io), 3 GND (power), 4 A6/IAD5 (io), 5 A7/IAD6 (io), 6 A8/IAD7 (io), 7 A9/IAD8 (io), 8 A10/IAD9 (io), 9 A11/IAD10 (io), 10 A12/IAD11 (io), 11 A13/IAD12 (io), 12 GND (power), 13 CLKIN (in), 14 XTAL (in), 15 VDD (power), 16 CLKOUT (out), 17 GND (power), 18 VDD (power), 19 ~{WR} (hiz), 20 ~{RD} (hiz), 21 ~{BMS} (hiz), 22 ~{DMS} (hiz), 23 ~{PMS} (hiz), 24 ~{IOMS} (hiz), 25 ~{CMS} (hiz), 26 ~{IRQE}+PF4 (io), 27 ~{IRQL}0+PF5 (io), 28 GND (power), 29 ~{IRQL}1+PF6 (io), 30 ~{IRQ}2+PF7 (io), 31 DT0 (out), 32 TFS0 (io), 33 RFS0 (io), 34 DR0 (in), 35 SCLK0 (io), 36 VDD (power), 37 DT1 (out), 38 TFS1 (io), 39 RFS1 (io), 40 DR1 (in), 41 GND (power), 42 SCLK1 (io), 43 ~{ERESET} (io), 44 ~{RESET} (in), 45 ~{EMS} (io), 46 EE (io), 47 ECLK (io), 48 ELOUT (io), 49 ELIN (io), 50 ~{EINT} (io), 51 ~{EBR} (io), 52 ~{BR} (in), 53 ~{EBG} (io), 54 ~{BG} (hiz), 55 D0/IAD13 (io), 56 D1/IAD14 (io), 57 D2/IAD15 (io), 58 D3/~{IACK} (io), 59 VDD (power), 60 GND (power), 61 D4/~{IS} (io), 62 D5/IAL (io), 63 D6/~{IRD} (io), 64 D7/~{IWR} (io), 65 D8 (io), 66 GND (power), 67 VDD (power), 68 D9 (io), 69 D10 (io), 70 D11 (io), 71 GND (power), 72 D12 (io), 73 D13 (io), 74 D14 (io), 75 D15 (io), 76 D16 (io), 77 D17 (io), 78 D18 (io), 79 D19 (io), 80 GND (power), 81 D20 (io), 82 D21 (io), 83 D22 (io), 84 D23 (io), 85 FL2 (out), 86 FL1 (out), 87 FL0 (out), 88 PF3 (io), 89 PF2 (MODE C) (io), 90 VDD (power), 91 ~{PWD} (in), 92 GND (power), 93 PF1 (MODE B) (io), 94 PF0 (MODE A) (io), 95 ~{BGH} (out), 96 PWDACK (out), 97 A0 (hiz), 98 A1/IAD0 (io), 99 A2/IAD1 (io), 100 A3/IAD2 (io)

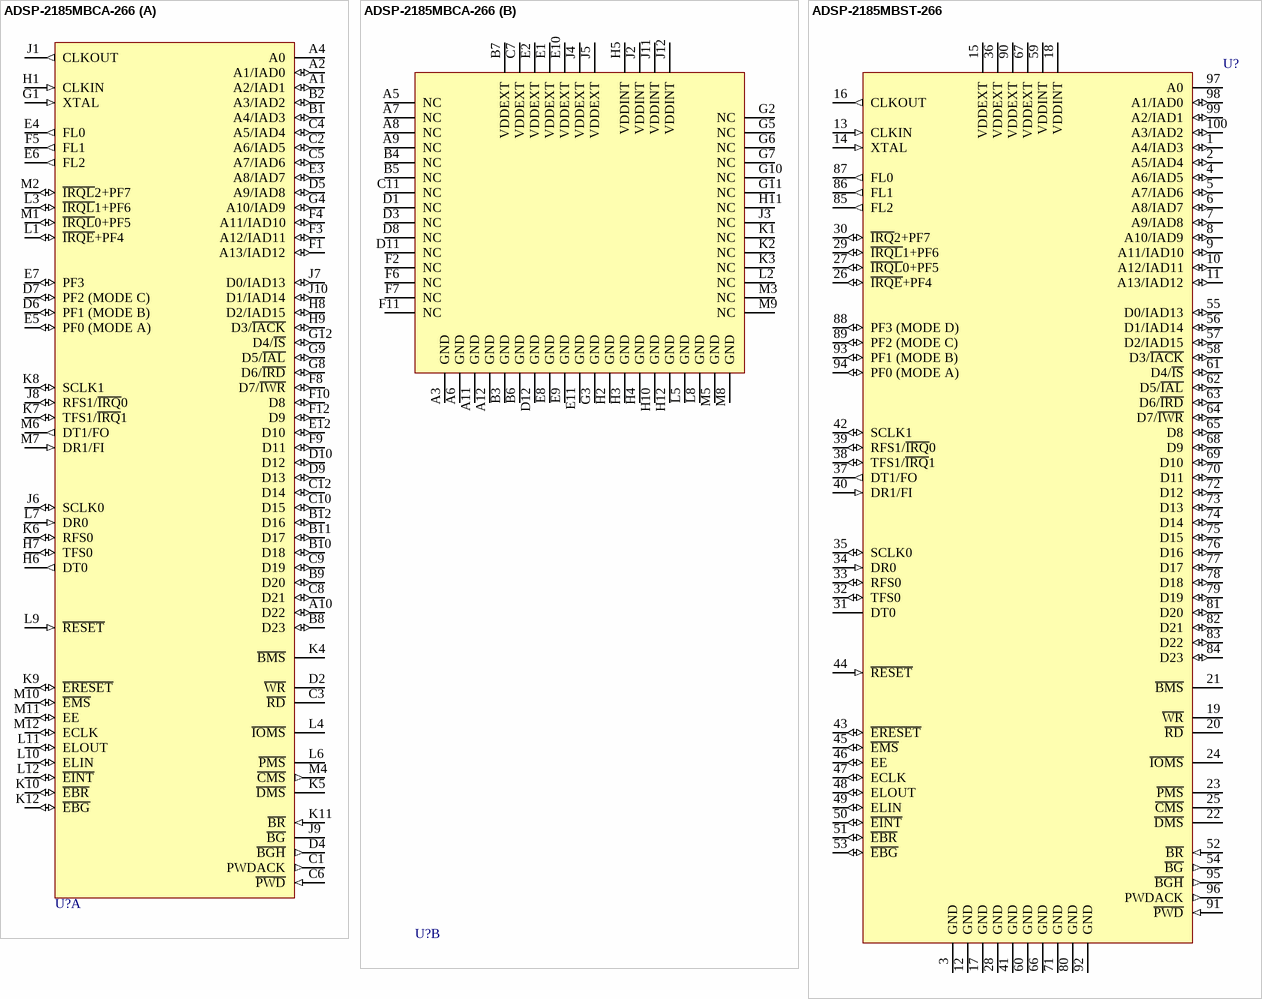
[diagram p35: symbols ADSP-2185MBCA-266 to ADSP-2185MBST-266]

## ADSP-2185MBCA-266
designator U?
75 MIPS, 2.5V, 2 Serial Ports, Host port, 80 KB RAM; Published: 24-Aug-2001; LatestRevisionDate: 13-Apr-2006; LatestRevisionNote: IPC-7351 Footprint Added.; DatasheetVersion: 2000; PackageVersion: May-2000; PackageReference: CA-144; Publisher: Altium Limited; PackageDescription: 144-Ball Ball Grid Array 0.8 mm Pitch; ComponentLink1Description: Manufacturer Link; ComponentLink1URL: http://www.analog.com/; ComponentLink2Description: Datasheet; ComponentLink2URL: http://www.analog.com/UploadedFiles/Data_Sheets/780889174692101209221397ADSP_2185M_0.pdf
footprint CA-144 (BGA, 144-Leads, Body 10x10mm, Pitch 0.8mm)
3D model 2185M-CA-144 (144-Ball Ball Grid Array 0.8 mm Pitch)
part A pins: A1 A2/IAD1 (io), A2 A1/IAD0 (io), A4 A0 (hiz), A10 D22 (io), B1 A4/IAD3 (io), B2 A3/IAD2 (io), B8 D23 (io), B9 D20 (io), B10 D18 (io), B11 D17 (io), B12 D16 (io), C1 PWDACK (out), C2 A6/IAD5 (io), C3 ~{RD} (hiz), C4 A5/IAD4 (io), C5 A7/IAD6 (io), C6 ~{PWD} (in), C8 D21 (io), C9 D19 (io), C10 D15 (io), C12 D14 (io), D2 ~{WR} (hiz), D4 ~{BGH} (out), D5 A9/IAD8 (io), D6 PF1 (MODE B) (io), D7 PF2 (MODE C) (io), D9 D13 (io), D10 D12 (io), E3 A8/IAD7 (io), E4 FL0 (out), E5 PF0 (MODE A) (io), E6 FL2 (out), E7 PF3 (io), E12 D10 (io), F1 A13/IAD12 (io), F3 A12/IAD11 (io), F4 A11/IAD10 (io), F5 FL1 (out), F8 D7/~{IWR} (io), F9 D11 (io), F10 D8 (io), F12 D9 (io), G1 XTAL (in), G4 A10/IAD9 (io), G8 D6/~{IRD} (io), G9 D5/~{IAL} (io), G12 D4/~{IS} (io), H1 CLKIN (in), H6 DT0 (out), H7 TFS0 (io), H8 D2/IAD15 (io), H9 D3/~{IACK} (io), J1 CLKOUT (out), J6 SCLK0 (io), J7 D0/IAD13 (io), J8 RFS1/~{IRQ}0 (io), J9 ~{BG} (hiz), J10 D1/IAD14 (io), K4 ~{BMS} (hiz), K5 ~{DMS} (hiz), K6 RFS0 (io), K7 TFS1/~{IRQ}1 (io), K8 SCLK1 (io), K9 ~{ERESET} (io), K10 ~{EBR} (io), K11 ~{BR} (in), K12 ~{EBG} (io), L1 ~{IRQE}+PF4 (io), L3 ~{IRQL}1+PF6 (io), L4 ~{IOMS} (hiz), L6 ~{PMS} (hiz), L7 DR0 (in), L9 ~{RESET} (in), L10 ELIN (io), L11 ELOUT (io), L12 ~{EINT} (io), M1 ~{IRQL}0+PF5 (io), M2 ~{IRQL}2+PF7 (io), M4 ~{CMS} (out), M6 DT1/FO (out), M7 DR1/FI (in), M10 ~{EMS} (io), M11 EE (io), M12 ECLK (io)
part B pins: A3 GND (power), A5 NC, A6 GND (power), A7 NC, A8 NC, A9 NC, A11 GND (power), A12 GND (power), B3 GND (power), B4 NC, B5 NC, B6 GND (power), B7 VDDEXT (power), C7 VDDEXT (power), C11 NC, D1 NC, D3 NC, D8 NC, D11 NC, D12 GND (power), E1 VDDEXT (power), E2 VDDEXT (power), E8 GND (power), E9 GND (power), E10 VDDEXT (power), E11 GND (power), F2 NC, F6 NC, F7 NC, F11 NC, G2 NC, G3 GND (power), G5 NC, G6 NC, G7 NC, G10 NC, G11 NC, H2 GND (power), H3 GND (power), H4 GND (power), H5 VDDINT (power), H10 GND (power), H11 NC, H12 GND (power), J2 VDDINT (power), J3 NC, J4 VDDEXT (power), J5 VDDEXT (power), J11 VDDINT (power), J12 VDDINT (power), K1 NC, K2 NC, K3 NC, L2 NC, L5 GND (power), L8 GND (power), M3 NC, M5 GND (power), M8 GND (power), M9 NC

## ADSP-2185MBST-266
designator U?
75 MIPS, 2.5V, 2 Serial Ports, Host port, 80 KB RAM; Published: 24-Aug-2001; LatestRevisionDate: 13-Apr-2006; LatestRevisionNote: IPC-7351 Footprint Added.; DatasheetVersion: 2000; PackageVersion: 2000; PackageReference: ST-100; Publisher: Altium Limited; PackageDescription: 100-Pin Thin Plastic Quad Flat Pack 0.5 mm Pitch; ComponentLink1Description: Manufacturer Link; ComponentLink1URL: http://www.analog.com/; ComponentLink2Description: Datasheet; ComponentLink2URL: http://www.analog.com/UploadedFiles/Data_Sheets/780889174692101209221397ADSP_2185M_0.pdf
footprint ST-100_N (Thin QFP, 100-Leads, Body 14x14mm, Pitch 0.5mm, IPC Medium Density)
footprint ST-100_L (Thin QFP, 100-Leads, Body 14x14mm, Pitch 0.5mm, IPC High Density)
footprint ST-100_M (Thin QFP, 100-Leads, Body 14x14mm, Pitch 0.5mm, IPC Low Density)
3D model 2185M-ST100 (100-Pin Thin Plastic Quad Flat Pack 0.5 mm Pitch)
pins: 1 A4/IAD3 (io), 2 A5/IAD4 (io), 3 GND (power), 4 A6/IAD5 (io), 5 A7/IAD6 (io), 6 A8/IAD7 (io), 7 A9/IAD8 (io), 8 A10/IAD9 (io), 9 A11/IAD10 (io), 10 A12/IAD11 (io), 11 A13/IAD12 (io), 12 GND (power), 13 CLKIN (in), 14 XTAL (in), 15 VDDEXT (power), 16 CLKOUT (out), 17 GND (power), 18 VDDINT (power), 19 ~{WR} (hiz), 20 ~{RD} (hiz), 21 ~{BMS} (hiz), 22 ~{DMS} (hiz), 23 ~{PMS} (hiz), 24 ~{IOMS} (hiz), 25 ~{CMS} (hiz), 26 ~{IRQE}+PF4 (io), 27 ~{IRQL}0+PF5 (io), 28 GND (power), 29 ~{IRQL}1+PF6 (io), 30 ~{IRQ}2+PF7 (io), 31 DT0 (hiz), 32 TFS0 (io), 33 RFS0 (io), 34 DR0 (in), 35 SCLK0 (io), 36 VDDEXT (power), 37 DT1/FO (out), 38 TFS1/~{IRQ}1 (io), 39 RFS1/~{IRQ}0 (io), 40 DR1/FI (in), 41 GND (power), 42 SCLK1 (io), 43 ~{ERESET} (io), 44 ~{RESET} (in), 45 ~{EMS} (io), 46 EE (io), 47 ECLK (io), 48 ELOUT (io), 49 ELIN (io), 50 ~{EINT} (io), 51 ~{EBR} (io), 52 ~{BR} (in), 53 ~{EBG} (io), 54 ~{BG} (out), 55 D0/IAD13 (io), 56 D1/IAD14 (io), 57 D2/IAD15 (io), 58 D3/~{IACK} (io), 59 VDDINT (power), 60 GND (power), 61 D4/~{IS} (io), 62 D5/~{IAL} (io), 63 D6/~{IRD} (io), 64 D7/~{IWR} (io), 65 D8 (io), 66 GND (power), 67 VDDEXT (power), 68 D9 (io), 69 D10 (io), 70 D11 (io), 71 GND (power), 72 D12 (io), 73 D13 (io), 74 D14 (io), 75 D15 (io), 76 D16 (io), 77 D17 (io), 78 D18 (io), 79 D19 (io), 80 GND (power), 81 D20 (io), 82 D21 (io), 83 D22 (io), 84 D23 (io), 85 FL2 (out), 86 FL1 (out), 87 FL0 (out), 88 PF3 (MODE D) (io), 89 PF2 (MODE C) (io), 90 VDDEXT (power), 91 ~{PWD} (in), 92 GND (power), 93 PF1 (MODE B) (io), 94 PF0 (MODE A) (io), 95 ~{BGH} (out), 96 PWDACK (out), 97 A0 (hiz), 98 A1/IAD0 (io), 99 A2/IAD1 (io), 100 A3/IAD2 (io)

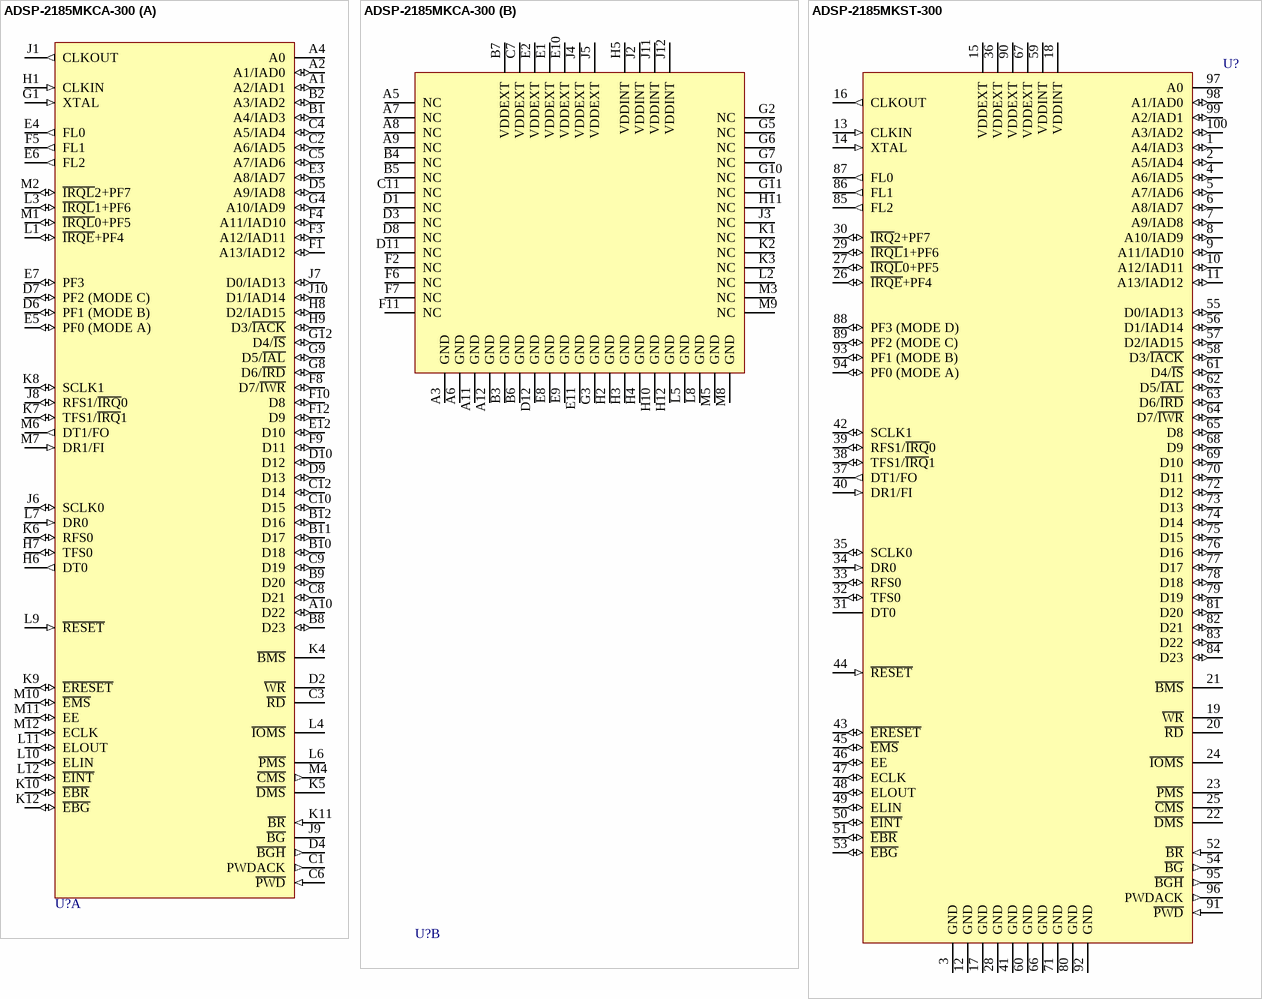
[diagram p36: symbols ADSP-2185MKCA-300 to ADSP-2185MKST-300]

## ADSP-2185MKCA-300
designator U?
75 MIPS, 2.5V, 2 Serial Ports, Host port, 80 KB RAM; Published: 24-Aug-2001; LatestRevisionDate: 13-Apr-2006; LatestRevisionNote: IPC-7351 Footprint Added.; DatasheetVersion: 2000; PackageVersion: May-2000; PackageReference: CA-144; Publisher: Altium Limited; PackageDescription: 144-Ball Ball Grid Array 0.8 mm Pitch; ComponentLink1Description: Manufacturer Link; ComponentLink1URL: http://www.analog.com/; ComponentLink2Description: Datasheet; ComponentLink2URL: http://www.analog.com/UploadedFiles/Data_Sheets/780889174692101209221397ADSP_2185M_0.pdf
footprint CA-144 (BGA, 144-Leads, Body 10x10mm, Pitch 0.8mm)
3D model 2185M-CA-144 (144-Ball Ball Grid Array 0.8 mm Pitch)
part A pins: A1 A2/IAD1 (io), A2 A1/IAD0 (io), A4 A0 (hiz), A10 D22 (io), B1 A4/IAD3 (io), B2 A3/IAD2 (io), B8 D23 (io), B9 D20 (io), B10 D18 (io), B11 D17 (io), B12 D16 (io), C1 PWDACK (out), C2 A6/IAD5 (io), C3 ~{RD} (hiz), C4 A5/IAD4 (io), C5 A7/IAD6 (io), C6 ~{PWD} (in), C8 D21 (io), C9 D19 (io), C10 D15 (io), C12 D14 (io), D2 ~{WR} (hiz), D4 ~{BGH} (out), D5 A9/IAD8 (io), D6 PF1 (MODE B) (io), D7 PF2 (MODE C) (io), D9 D13 (io), D10 D12 (io), E3 A8/IAD7 (io), E4 FL0 (out), E5 PF0 (MODE A) (io), E6 FL2 (out), E7 PF3 (io), E12 D10 (io), F1 A13/IAD12 (io), F3 A12/IAD11 (io), F4 A11/IAD10 (io), F5 FL1 (out), F8 D7/~{IWR} (io), F9 D11 (io), F10 D8 (io), F12 D9 (io), G1 XTAL (in), G4 A10/IAD9 (io), G8 D6/~{IRD} (io), G9 D5/~{IAL} (io), G12 D4/~{IS} (io), H1 CLKIN (in), H6 DT0 (out), H7 TFS0 (io), H8 D2/IAD15 (io), H9 D3/~{IACK} (io), J1 CLKOUT (out), J6 SCLK0 (io), J7 D0/IAD13 (io), J8 RFS1/~{IRQ}0 (io), J9 ~{BG} (hiz), J10 D1/IAD14 (io), K4 ~{BMS} (hiz), K5 ~{DMS} (hiz), K6 RFS0 (io), K7 TFS1/~{IRQ}1 (io), K8 SCLK1 (io), K9 ~{ERESET} (io), K10 ~{EBR} (io), K11 ~{BR} (in), K12 ~{EBG} (io), L1 ~{IRQE}+PF4 (io), L3 ~{IRQL}1+PF6 (io), L4 ~{IOMS} (hiz), L6 ~{PMS} (hiz), L7 DR0 (in), L9 ~{RESET} (in), L10 ELIN (io), L11 ELOUT (io), L12 ~{EINT} (io), M1 ~{IRQL}0+PF5 (io), M2 ~{IRQL}2+PF7 (io), M4 ~{CMS} (out), M6 DT1/FO (out), M7 DR1/FI (in), M10 ~{EMS} (io), M11 EE (io), M12 ECLK (io)
part B pins: A3 GND (power), A5 NC, A6 GND (power), A7 NC, A8 NC, A9 NC, A11 GND (power), A12 GND (power), B3 GND (power), B4 NC, B5 NC, B6 GND (power), B7 VDDEXT (power), C7 VDDEXT (power), C11 NC, D1 NC, D3 NC, D8 NC, D11 NC, D12 GND (power), E1 VDDEXT (power), E2 VDDEXT (power), E8 GND (power), E9 GND (power), E10 VDDEXT (power), E11 GND (power), F2 NC, F6 NC, F7 NC, F11 NC, G2 NC, G3 GND (power), G5 NC, G6 NC, G7 NC, G10 NC, G11 NC, H2 GND (power), H3 GND (power), H4 GND (power), H5 VDDINT (power), H10 GND (power), H11 NC, H12 GND (power), J2 VDDINT (power), J3 NC, J4 VDDEXT (power), J5 VDDEXT (power), J11 VDDINT (power), J12 VDDINT (power), K1 NC, K2 NC, K3 NC, L2 NC, L5 GND (power), L8 GND (power), M3 NC, M5 GND (power), M8 GND (power), M9 NC

## ADSP-2185MKST-300
designator U?
75 MIPS, 2.5V, 2 Serial Ports, Host port, 80 KB RAM; Published: 24-Aug-2001; LatestRevisionDate: 13-Apr-2006; LatestRevisionNote: IPC-7351 Footprint Added.; DatasheetVersion: 2000; PackageVersion: 2000; PackageReference: ST-100; Publisher: Altium Limited; PackageDescription: 100-Pin Thin Plastic Quad Flat Pack 0.5 mm Pitch; ComponentLink1Description: Manufacturer Link; ComponentLink1URL: http://www.analog.com/; ComponentLink2Description: Datasheet; ComponentLink2URL: http://www.analog.com/UploadedFiles/Data_Sheets/780889174692101209221397ADSP_2185M_0.pdf
footprint ST-100_N (Thin QFP, 100-Leads, Body 14x14mm, Pitch 0.5mm, IPC Medium Density)
footprint ST-100_L (Thin QFP, 100-Leads, Body 14x14mm, Pitch 0.5mm, IPC High Density)
footprint ST-100_M (Thin QFP, 100-Leads, Body 14x14mm, Pitch 0.5mm, IPC Low Density)
3D model 2185M-ST100 (100-Pin Thin Plastic Quad Flat Pack 0.5 mm Pitch)
pins: 1 A4/IAD3 (io), 2 A5/IAD4 (io), 3 GND (power), 4 A6/IAD5 (io), 5 A7/IAD6 (io), 6 A8/IAD7 (io), 7 A9/IAD8 (io), 8 A10/IAD9 (io), 9 A11/IAD10 (io), 10 A12/IAD11 (io), 11 A13/IAD12 (io), 12 GND (power), 13 CLKIN (in), 14 XTAL (in), 15 VDDEXT (power), 16 CLKOUT (out), 17 GND (power), 18 VDDINT (power), 19 ~{WR} (hiz), 20 ~{RD} (hiz), 21 ~{BMS} (hiz), 22 ~{DMS} (hiz), 23 ~{PMS} (hiz), 24 ~{IOMS} (hiz), 25 ~{CMS} (hiz), 26 ~{IRQE}+PF4 (io), 27 ~{IRQL}0+PF5 (io), 28 GND (power), 29 ~{IRQL}1+PF6 (io), 30 ~{IRQ}2+PF7 (io), 31 DT0 (hiz), 32 TFS0 (io), 33 RFS0 (io), 34 DR0 (in), 35 SCLK0 (io), 36 VDDEXT (power), 37 DT1/FO (out), 38 TFS1/~{IRQ}1 (io), 39 RFS1/~{IRQ}0 (io), 40 DR1/FI (in), 41 GND (power), 42 SCLK1 (io), 43 ~{ERESET} (io), 44 ~{RESET} (in), 45 ~{EMS} (io), 46 EE (io), 47 ECLK (io), 48 ELOUT (io), 49 ELIN (io), 50 ~{EINT} (io), 51 ~{EBR} (io), 52 ~{BR} (in), 53 ~{EBG} (io), 54 ~{BG} (out), 55 D0/IAD13 (io), 56 D1/IAD14 (io), 57 D2/IAD15 (io), 58 D3/~{IACK} (io), 59 VDDINT (power), 60 GND (power), 61 D4/~{IS} (io), 62 D5/~{IAL} (io), 63 D6/~{IRD} (io), 64 D7/~{IWR} (io), 65 D8 (io), 66 GND (power), 67 VDDEXT (power), 68 D9 (io), 69 D10 (io), 70 D11 (io), 71 GND (power), 72 D12 (io), 73 D13 (io), 74 D14 (io), 75 D15 (io), 76 D16 (io), 77 D17 (io), 78 D18 (io), 79 D19 (io), 80 GND (power), 81 D20 (io), 82 D21 (io), 83 D22 (io), 84 D23 (io), 85 FL2 (out), 86 FL1 (out), 87 FL0 (out), 88 PF3 (MODE D) (io), 89 PF2 (MODE C) (io), 90 VDDEXT (power), 91 ~{PWD} (in), 92 GND (power), 93 PF1 (MODE B) (io), 94 PF0 (MODE A) (io), 95 ~{BGH} (out), 96 PWDACK (out), 97 A0 (hiz), 98 A1/IAD0 (io), 99 A2/IAD1 (io), 100 A3/IAD2 (io)

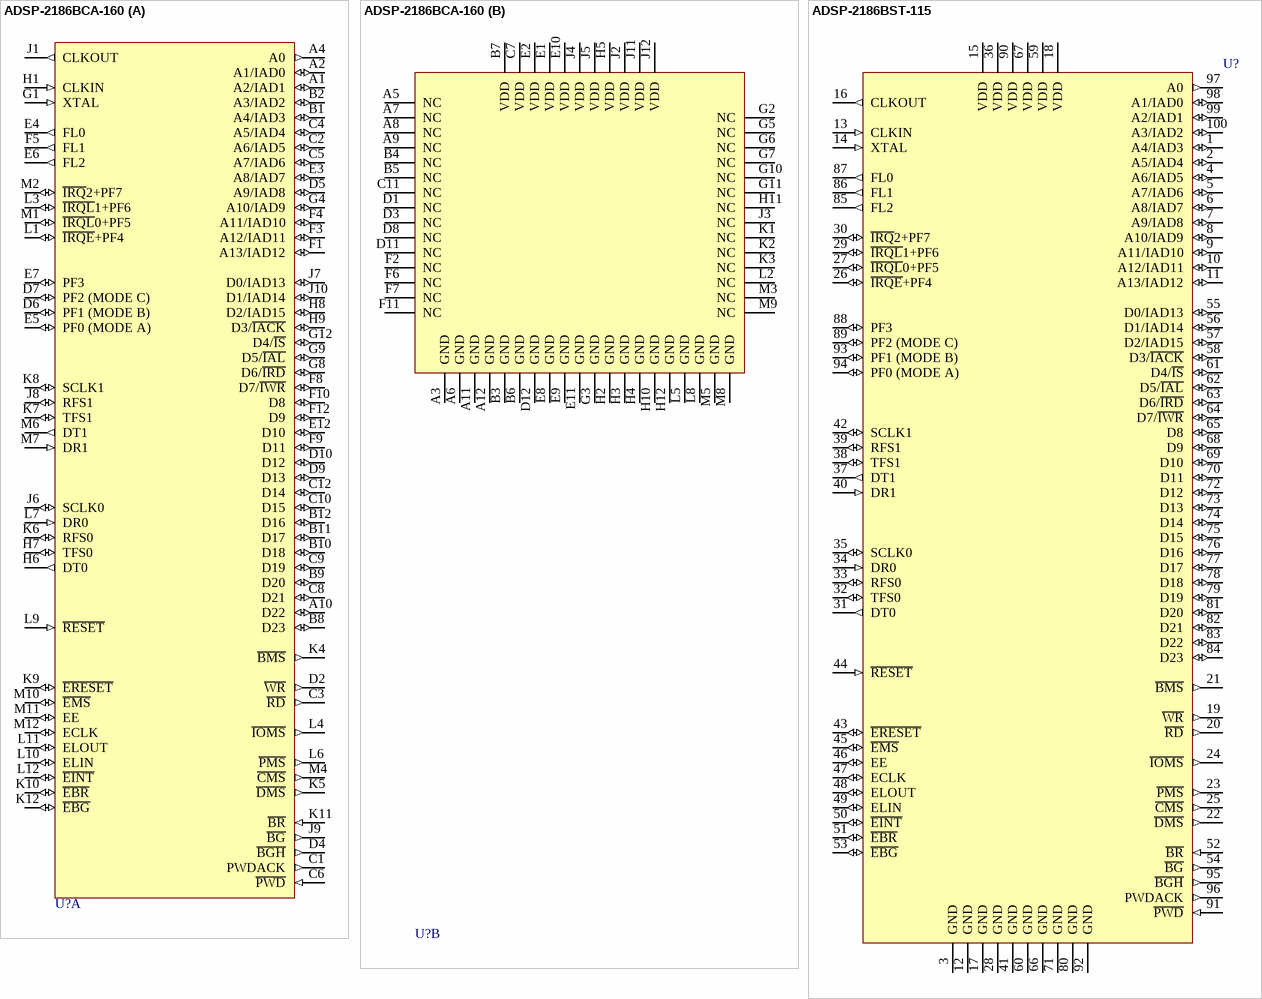
[diagram p37: symbols ADSP-2186BCA-160 to ADSP-2186BST-115]

## ADSP-2186BCA-160
designator U?
40 MIPS, 5V, 2 Serial Ports, Host Port, 40 KB RAM; Published: 24-Aug-2001; LatestRevisionDate: 13-Apr-2006; LatestRevisionNote: IPC-7351 Footprint Added.; DatasheetVersion: 1999; PackageVersion: May-2000; PackageReference: CA-144; Publisher: Altium Limited; PackageDescription: 144-Ball Ball Grid Array 0.8 mm Pitch; ComponentLink1Description: Manufacturer Link; ComponentLink1URL: http://www.analog.com/; ComponentLink2Description: Datasheet; ComponentLink2URL: http://www.analog.com/UploadedFiles/Data_Sheets/48332071ADSP-2186_b.pdf
footprint CA-144 (BGA, 144-Leads, Body 10x10mm, Pitch 0.8mm)
3D model 2186-CA-144 (144-Ball Ball Grid Array 0.8 mm Pitch)
part A pins: A1 A2/IAD1 (io), A2 A1/IAD0 (io), A4 A0 (out), A10 D22 (io), B1 A4/IAD3 (io), B2 A3/IAD2 (io), B8 D23 (io), B9 D20 (io), B10 D18 (io), B11 D17 (io), B12 D16 (io), C1 PWDACK (out), C2 A6/IAD5 (io), C3 ~{RD} (out), C4 A5/IAD4 (io), C5 A7/IAD6 (io), C6 ~{PWD} (in), C8 D21 (io), C9 D19 (io), C10 D15 (io), C12 D14 (io), D2 ~{WR} (out), D4 ~{BGH} (out), D5 A9/IAD8 (io), D6 PF1 (MODE B) (io), D7 PF2 (MODE C) (io), D9 D13 (io), D10 D12 (io), E3 A8/IAD7 (io), E4 FL0 (out), E5 PF0 (MODE A) (io), E6 FL2 (out), E7 PF3 (io), E12 D10 (io), F1 A13/IAD12 (io), F3 A12/IAD11 (io), F4 A11/IAD10 (io), F5 FL1 (out), F8 D7/~{IWR} (io), F9 D11 (io), F10 D8 (io), F12 D9 (io), G1 XTAL (in), G4 A10/IAD9 (io), G8 D6/~{IRD} (io), G9 D5/~{IAL} (io), G12 D4/~{IS} (io), H1 CLKIN (in), H6 DT0 (out), H7 TFS0 (io), H8 D2/IAD15 (io), H9 D3/~{IACK} (io), J1 CLKOUT (out), J6 SCLK0 (io), J7 D0/IAD13 (io), J8 RFS1 (io), J9 ~{BG} (out), J10 D1/IAD14 (io), K4 ~{BMS} (out), K5 ~{DMS} (out), K6 RFS0 (io), K7 TFS1 (io), K8 SCLK1 (io), K9 ~{ERESET} (io), K10 ~{EBR} (io), K11 ~{BR} (in), K12 ~{EBG} (io), L1 ~{IRQE}+PF4 (io), L3 ~{IRQL}1+PF6 (io), L4 ~{IOMS} (out), L6 ~{PMS} (out), L7 DR0 (in), L9 ~{RESET} (in), L10 ELIN (io), L11 ELOUT (io), L12 ~{EINT} (io), M1 ~{IRQL}0+PF5 (io), M2 ~{IRQ}2+PF7 (io), M4 ~{CMS} (out), M6 DT1 (out), M7 DR1 (in), M10 ~{EMS} (io), M11 EE (io), M12 ECLK (io)
part B pins: A3 GND (power), A5 NC, A6 GND (power), A7 NC, A8 NC, A9 NC, A11 GND (power), A12 GND (power), B3 GND (power), B4 NC, B5 NC, B6 GND (power), B7 VDD (power), C7 VDD (power), C11 NC, D1 NC, D3 NC, D8 NC, D11 NC, D12 GND (power), E1 VDD (power), E2 VDD (power), E8 GND (power), E9 GND (power), E10 VDD (power), E11 GND (power), F2 NC, F6 NC, F7 NC, F11 NC, G2 NC, G3 GND (power), G5 NC, G6 NC, G7 NC, G10 NC, G11 NC, H2 GND (power), H3 GND (power), H4 GND (power), H5 VDD (power), H10 GND (power), H11 NC, H12 GND (power), J2 VDD (power), J3 NC, J4 VDD (power), J5 VDD (power), J11 VDD (power), J12 VDD (power), K1 NC, K2 NC, K3 NC, L2 NC, L5 GND (power), L8 GND (power), M3 NC, M5 GND (power), M8 GND (power), M9 NC

## ADSP-2186BST-115
designator U?
40 MIPS, 5V, 2 Serial Ports, Host Port, 40 KB RAM; Published: 24-Aug-2001; LatestRevisionDate: 13-Apr-2006; LatestRevisionNote: IPC-7351 Footprint Added.; DatasheetVersion: 1999; PackageVersion: 2000; PackageReference: ST-100; Publisher: Altium Limited; PackageDescription: 100-Pin Thin Plastic Quad Flat Pack 0.5 mm Pitch; ComponentLink1Description: Manufacturer Link; ComponentLink1URL: http://www.analog.com/; ComponentLink2Description: Datasheet; ComponentLink2URL: http://www.analog.com/UploadedFiles/Data_Sheets/48332071ADSP-2186_b.pdf
footprint ST-100_N (Thin QFP, 100-Leads, Body 14x14mm, Pitch 0.5mm, IPC Medium Density)
footprint ST-100_L (Thin QFP, 100-Leads, Body 14x14mm, Pitch 0.5mm, IPC High Density)
footprint ST-100_M (Thin QFP, 100-Leads, Body 14x14mm, Pitch 0.5mm, IPC Low Density)
3D model 2186-ST100 (100-Pin Thin Plastic Quad Flat Pack 0.5 mm Pitch)
pins: 1 A4/IAD3 (io), 2 A5/IAD4 (io), 3 GND (power), 4 A6/IAD5 (io), 5 A7/IAD6 (io), 6 A8/IAD7 (io), 7 A9/IAD8 (io), 8 A10/IAD9 (io), 9 A11/IAD10 (io), 10 A12/IAD11 (io), 11 A13/IAD12 (io), 12 GND (power), 13 CLKIN (in), 14 XTAL (in), 15 VDD (power), 16 CLKOUT (out), 17 GND (power), 18 VDD (power), 19 ~{WR} (out), 20 ~{RD} (out), 21 ~{BMS} (out), 22 ~{DMS} (out), 23 ~{PMS} (out), 24 ~{IOMS} (out), 25 ~{CMS} (out), 26 ~{IRQE}+PF4 (io), 27 ~{IRQL}0+PF5 (io), 28 GND (power), 29 ~{IRQL}1+PF6 (io), 30 ~{IRQ}2+PF7 (io), 31 DT0 (out), 32 TFS0 (io), 33 RFS0 (io), 34 DR0 (in), 35 SCLK0 (io), 36 VDD (power), 37 DT1 (out), 38 TFS1 (io), 39 RFS1 (io), 40 DR1 (in), 41 GND (power), 42 SCLK1 (io), 43 ~{ERESET} (io), 44 ~{RESET} (in), 45 ~{EMS} (io), 46 EE (io), 47 ECLK (io), 48 ELOUT (io), 49 ELIN (io), 50 ~{EINT} (io), 51 ~{EBR} (io), 52 ~{BR} (in), 53 ~{EBG} (io), 54 ~{BG} (out), 55 D0/IAD13 (io), 56 D1/IAD14 (io), 57 D2/IAD15 (io), 58 D3/~{IACK} (io), 59 VDD (power), 60 GND (power), 61 D4/~{IS} (io), 62 D5/~{IAL} (io), 63 D6/~{IRD} (io), 64 D7/~{IWR} (io), 65 D8 (io), 66 GND (power), 67 VDD (power), 68 D9 (io), 69 D10 (io), 70 D11 (io), 71 GND (power), 72 D12 (io), 73 D13 (io), 74 D14 (io), 75 D15 (io), 76 D16 (io), 77 D17 (io), 78 D18 (io), 79 D19 (io), 80 GND (power), 81 D20 (io), 82 D21 (io), 83 D22 (io), 84 D23 (io), 85 FL2 (out), 86 FL1 (out), 87 FL0 (out), 88 PF3 (io), 89 PF2 (MODE C) (io), 90 VDD (power), 91 ~{PWD} (in), 92 GND (power), 93 PF1 (MODE B) (io), 94 PF0 (MODE A) (io), 95 ~{BGH} (out), 96 PWDACK (out), 97 A0 (out), 98 A1/IAD0 (io), 99 A2/IAD1 (io), 100 A3/IAD2 (io)

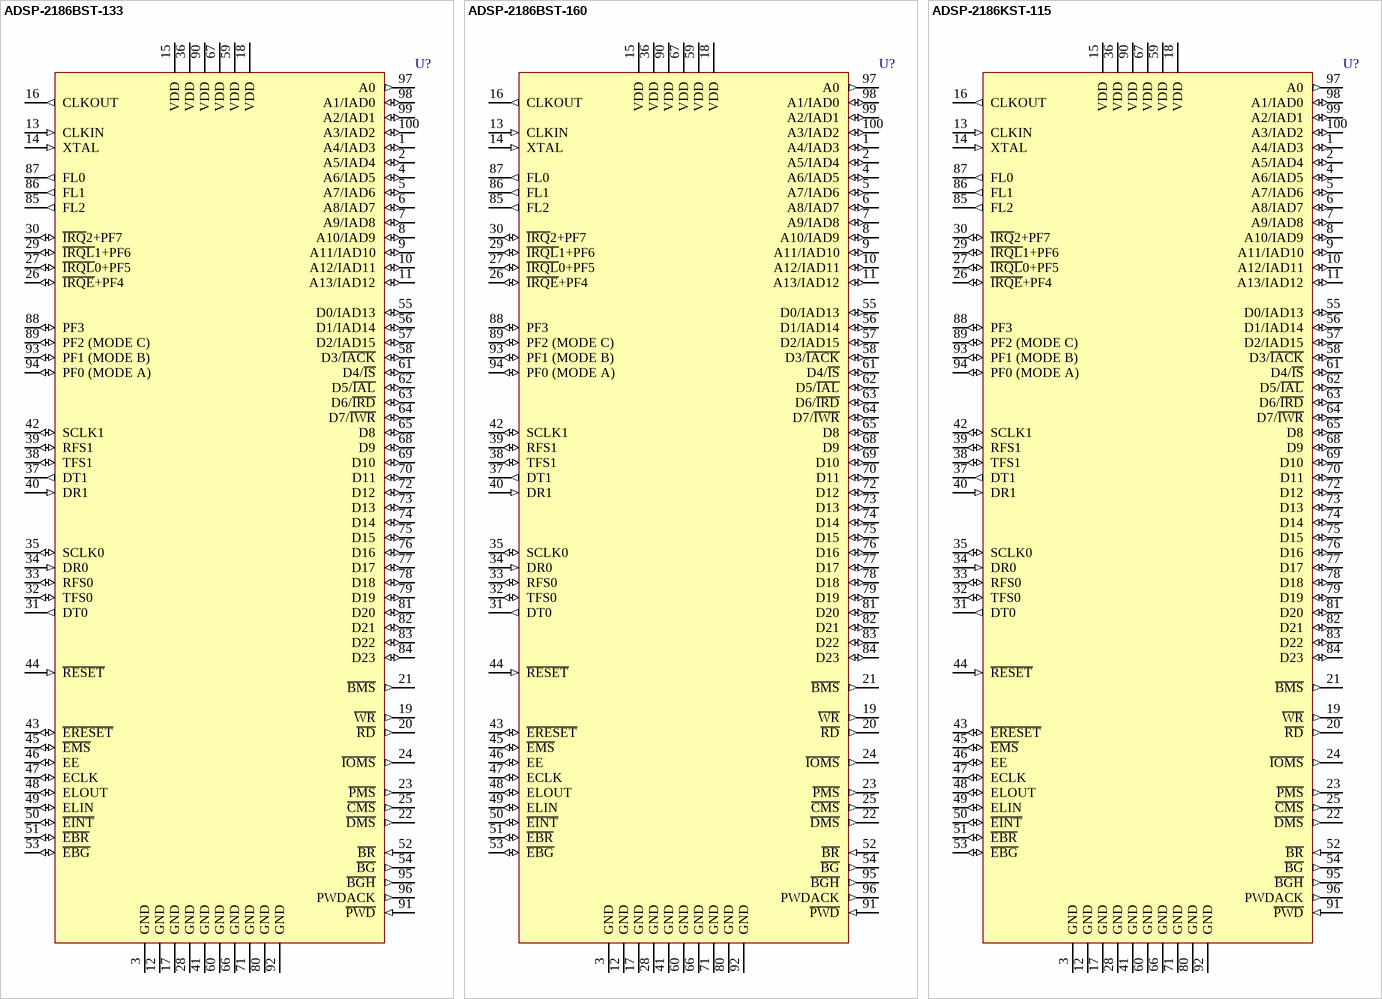
[diagram p38: symbols ADSP-2186BST-133 to ADSP-2186KST-115]

## ADSP-2186BST-133
designator U?
40 MIPS, 5V, 2 Serial Ports, Host Port, 40 KB RAM; Published: 24-Aug-2001; LatestRevisionDate: 13-Apr-2006; LatestRevisionNote: IPC-7351 Footprint Added.; DatasheetVersion: 1999; PackageVersion: 2000; PackageReference: ST-100; Publisher: Altium Limited; PackageDescription: 100-Pin Thin Plastic Quad Flat Pack 0.5 mm Pitch; ComponentLink1Description: Manufacturer Link; ComponentLink1URL: http://www.analog.com/; ComponentLink2Description: Datasheet; ComponentLink2URL: http://www.analog.com/UploadedFiles/Data_Sheets/48332071ADSP-2186_b.pdf
footprint ST-100_N (Thin QFP, 100-Leads, Body 14x14mm, Pitch 0.5mm, IPC Medium Density)
footprint ST-100_L (Thin QFP, 100-Leads, Body 14x14mm, Pitch 0.5mm, IPC High Density)
footprint ST-100_M (Thin QFP, 100-Leads, Body 14x14mm, Pitch 0.5mm, IPC Low Density)
3D model 2186-ST100 (100-Pin Thin Plastic Quad Flat Pack 0.5 mm Pitch)
pins: 1 A4/IAD3 (io), 2 A5/IAD4 (io), 3 GND (power), 4 A6/IAD5 (io), 5 A7/IAD6 (io), 6 A8/IAD7 (io), 7 A9/IAD8 (io), 8 A10/IAD9 (io), 9 A11/IAD10 (io), 10 A12/IAD11 (io), 11 A13/IAD12 (io), 12 GND (power), 13 CLKIN (in), 14 XTAL (in), 15 VDD (power), 16 CLKOUT (out), 17 GND (power), 18 VDD (power), 19 ~{WR} (out), 20 ~{RD} (out), 21 ~{BMS} (out), 22 ~{DMS} (out), 23 ~{PMS} (out), 24 ~{IOMS} (out), 25 ~{CMS} (out), 26 ~{IRQE}+PF4 (io), 27 ~{IRQL}0+PF5 (io), 28 GND (power), 29 ~{IRQL}1+PF6 (io), 30 ~{IRQ}2+PF7 (io), 31 DT0 (out), 32 TFS0 (io), 33 RFS0 (io), 34 DR0 (in), 35 SCLK0 (io), 36 VDD (power), 37 DT1 (out), 38 TFS1 (io), 39 RFS1 (io), 40 DR1 (in), 41 GND (power), 42 SCLK1 (io), 43 ~{ERESET} (io), 44 ~{RESET} (in), 45 ~{EMS} (io), 46 EE (io), 47 ECLK (io), 48 ELOUT (io), 49 ELIN (io), 50 ~{EINT} (io), 51 ~{EBR} (io), 52 ~{BR} (in), 53 ~{EBG} (io), 54 ~{BG} (out), 55 D0/IAD13 (io), 56 D1/IAD14 (io), 57 D2/IAD15 (io), 58 D3/~{IACK} (io), 59 VDD (power), 60 GND (power), 61 D4/~{IS} (io), 62 D5/~{IAL} (io), 63 D6/~{IRD} (io), 64 D7/~{IWR} (io), 65 D8 (io), 66 GND (power), 67 VDD (power), 68 D9 (io), 69 D10 (io), 70 D11 (io), 71 GND (power), 72 D12 (io), 73 D13 (io), 74 D14 (io), 75 D15 (io), 76 D16 (io), 77 D17 (io), 78 D18 (io), 79 D19 (io), 80 GND (power), 81 D20 (io), 82 D21 (io), 83 D22 (io), 84 D23 (io), 85 FL2 (out), 86 FL1 (out), 87 FL0 (out), 88 PF3 (io), 89 PF2 (MODE C) (io), 90 VDD (power), 91 ~{PWD} (in), 92 GND (power), 93 PF1 (MODE B) (io), 94 PF0 (MODE A) (io), 95 ~{BGH} (out), 96 PWDACK (out), 97 A0 (out), 98 A1/IAD0 (io), 99 A2/IAD1 (io), 100 A3/IAD2 (io)

## ADSP-2186BST-160
designator U?
40 MIPS, 5V, 2 Serial Ports, Host Port, 40 KB RAM; Published: 24-Aug-2001; LatestRevisionDate: 13-Apr-2006; LatestRevisionNote: IPC-7351 Footprint Added.; DatasheetVersion: 1999; PackageVersion: 2000; PackageReference: ST-100; Publisher: Altium Limited; PackageDescription: 100-Pin Thin Plastic Quad Flat Pack 0.5 mm Pitch; ComponentLink1Description: Manufacturer Link; ComponentLink1URL: http://www.analog.com/; ComponentLink2Description: Datasheet; ComponentLink2URL: http://www.analog.com/UploadedFiles/Data_Sheets/48332071ADSP-2186_b.pdf
footprint ST-100_N (Thin QFP, 100-Leads, Body 14x14mm, Pitch 0.5mm, IPC Medium Density)
footprint ST-100_L (Thin QFP, 100-Leads, Body 14x14mm, Pitch 0.5mm, IPC High Density)
footprint ST-100_M (Thin QFP, 100-Leads, Body 14x14mm, Pitch 0.5mm, IPC Low Density)
3D model 2186-ST100 (100-Pin Thin Plastic Quad Flat Pack 0.5 mm Pitch)
pins: 1 A4/IAD3 (io), 2 A5/IAD4 (io), 3 GND (power), 4 A6/IAD5 (io), 5 A7/IAD6 (io), 6 A8/IAD7 (io), 7 A9/IAD8 (io), 8 A10/IAD9 (io), 9 A11/IAD10 (io), 10 A12/IAD11 (io), 11 A13/IAD12 (io), 12 GND (power), 13 CLKIN (in), 14 XTAL (in), 15 VDD (power), 16 CLKOUT (out), 17 GND (power), 18 VDD (power), 19 ~{WR} (out), 20 ~{RD} (out), 21 ~{BMS} (out), 22 ~{DMS} (out), 23 ~{PMS} (out), 24 ~{IOMS} (out), 25 ~{CMS} (out), 26 ~{IRQE}+PF4 (io), 27 ~{IRQL}0+PF5 (io), 28 GND (power), 29 ~{IRQL}1+PF6 (io), 30 ~{IRQ}2+PF7 (io), 31 DT0 (out), 32 TFS0 (io), 33 RFS0 (io), 34 DR0 (in), 35 SCLK0 (io), 36 VDD (power), 37 DT1 (out), 38 TFS1 (io), 39 RFS1 (io), 40 DR1 (in), 41 GND (power), 42 SCLK1 (io), 43 ~{ERESET} (io), 44 ~{RESET} (in), 45 ~{EMS} (io), 46 EE (io), 47 ECLK (io), 48 ELOUT (io), 49 ELIN (io), 50 ~{EINT} (io), 51 ~{EBR} (io), 52 ~{BR} (in), 53 ~{EBG} (io), 54 ~{BG} (out), 55 D0/IAD13 (io), 56 D1/IAD14 (io), 57 D2/IAD15 (io), 58 D3/~{IACK} (io), 59 VDD (power), 60 GND (power), 61 D4/~{IS} (io), 62 D5/~{IAL} (io), 63 D6/~{IRD} (io), 64 D7/~{IWR} (io), 65 D8 (io), 66 GND (power), 67 VDD (power), 68 D9 (io), 69 D10 (io), 70 D11 (io), 71 GND (power), 72 D12 (io), 73 D13 (io), 74 D14 (io), 75 D15 (io), 76 D16 (io), 77 D17 (io), 78 D18 (io), 79 D19 (io), 80 GND (power), 81 D20 (io), 82 D21 (io), 83 D22 (io), 84 D23 (io), 85 FL2 (out), 86 FL1 (out), 87 FL0 (out), 88 PF3 (io), 89 PF2 (MODE C) (io), 90 VDD (power), 91 ~{PWD} (in), 92 GND (power), 93 PF1 (MODE B) (io), 94 PF0 (MODE A) (io), 95 ~{BGH} (out), 96 PWDACK (out), 97 A0 (out), 98 A1/IAD0 (io), 99 A2/IAD1 (io), 100 A3/IAD2 (io)

## ADSP-2186KST-115
designator U?
40 MIPS, 5V, 2 Serial Ports, Host Port, 40 KB RAM; Published: 24-Aug-2001; LatestRevisionDate: 13-Apr-2006; LatestRevisionNote: IPC-7351 Footprint Added.; DatasheetVersion: 1999; PackageVersion: 2000; PackageReference: ST-100; Publisher: Altium Limited; PackageDescription: 100-Pin Thin Plastic Quad Flat Pack 0.5 mm Pitch; ComponentLink1Description: Manufacturer Link; ComponentLink1URL: http://www.analog.com/; ComponentLink2Description: Datasheet; ComponentLink2URL: http://www.analog.com/UploadedFiles/Data_Sheets/48332071ADSP-2186_b.pdf
footprint ST-100_N (Thin QFP, 100-Leads, Body 14x14mm, Pitch 0.5mm, IPC Medium Density)
footprint ST-100_L (Thin QFP, 100-Leads, Body 14x14mm, Pitch 0.5mm, IPC High Density)
footprint ST-100_M (Thin QFP, 100-Leads, Body 14x14mm, Pitch 0.5mm, IPC Low Density)
3D model 2186-ST100 (100-Pin Thin Plastic Quad Flat Pack 0.5 mm Pitch)
pins: 1 A4/IAD3 (io), 2 A5/IAD4 (io), 3 GND (power), 4 A6/IAD5 (io), 5 A7/IAD6 (io), 6 A8/IAD7 (io), 7 A9/IAD8 (io), 8 A10/IAD9 (io), 9 A11/IAD10 (io), 10 A12/IAD11 (io), 11 A13/IAD12 (io), 12 GND (power), 13 CLKIN (in), 14 XTAL (in), 15 VDD (power), 16 CLKOUT (out), 17 GND (power), 18 VDD (power), 19 ~{WR} (out), 20 ~{RD} (out), 21 ~{BMS} (out), 22 ~{DMS} (out), 23 ~{PMS} (out), 24 ~{IOMS} (out), 25 ~{CMS} (out), 26 ~{IRQE}+PF4 (io), 27 ~{IRQL}0+PF5 (io), 28 GND (power), 29 ~{IRQL}1+PF6 (io), 30 ~{IRQ}2+PF7 (io), 31 DT0 (out), 32 TFS0 (io), 33 RFS0 (io), 34 DR0 (in), 35 SCLK0 (io), 36 VDD (power), 37 DT1 (out), 38 TFS1 (io), 39 RFS1 (io), 40 DR1 (in), 41 GND (power), 42 SCLK1 (io), 43 ~{ERESET} (io), 44 ~{RESET} (in), 45 ~{EMS} (io), 46 EE (io), 47 ECLK (io), 48 ELOUT (io), 49 ELIN (io), 50 ~{EINT} (io), 51 ~{EBR} (io), 52 ~{BR} (in), 53 ~{EBG} (io), 54 ~{BG} (out), 55 D0/IAD13 (io), 56 D1/IAD14 (io), 57 D2/IAD15 (io), 58 D3/~{IACK} (io), 59 VDD (power), 60 GND (power), 61 D4/~{IS} (io), 62 D5/~{IAL} (io), 63 D6/~{IRD} (io), 64 D7/~{IWR} (io), 65 D8 (io), 66 GND (power), 67 VDD (power), 68 D9 (io), 69 D10 (io), 70 D11 (io), 71 GND (power), 72 D12 (io), 73 D13 (io), 74 D14 (io), 75 D15 (io), 76 D16 (io), 77 D17 (io), 78 D18 (io), 79 D19 (io), 80 GND (power), 81 D20 (io), 82 D21 (io), 83 D22 (io), 84 D23 (io), 85 FL2 (out), 86 FL1 (out), 87 FL0 (out), 88 PF3 (io), 89 PF2 (MODE C) (io), 90 VDD (power), 91 ~{PWD} (in), 92 GND (power), 93 PF1 (MODE B) (io), 94 PF0 (MODE A) (io), 95 ~{BGH} (out), 96 PWDACK (out), 97 A0 (out), 98 A1/IAD0 (io), 99 A2/IAD1 (io), 100 A3/IAD2 (io)

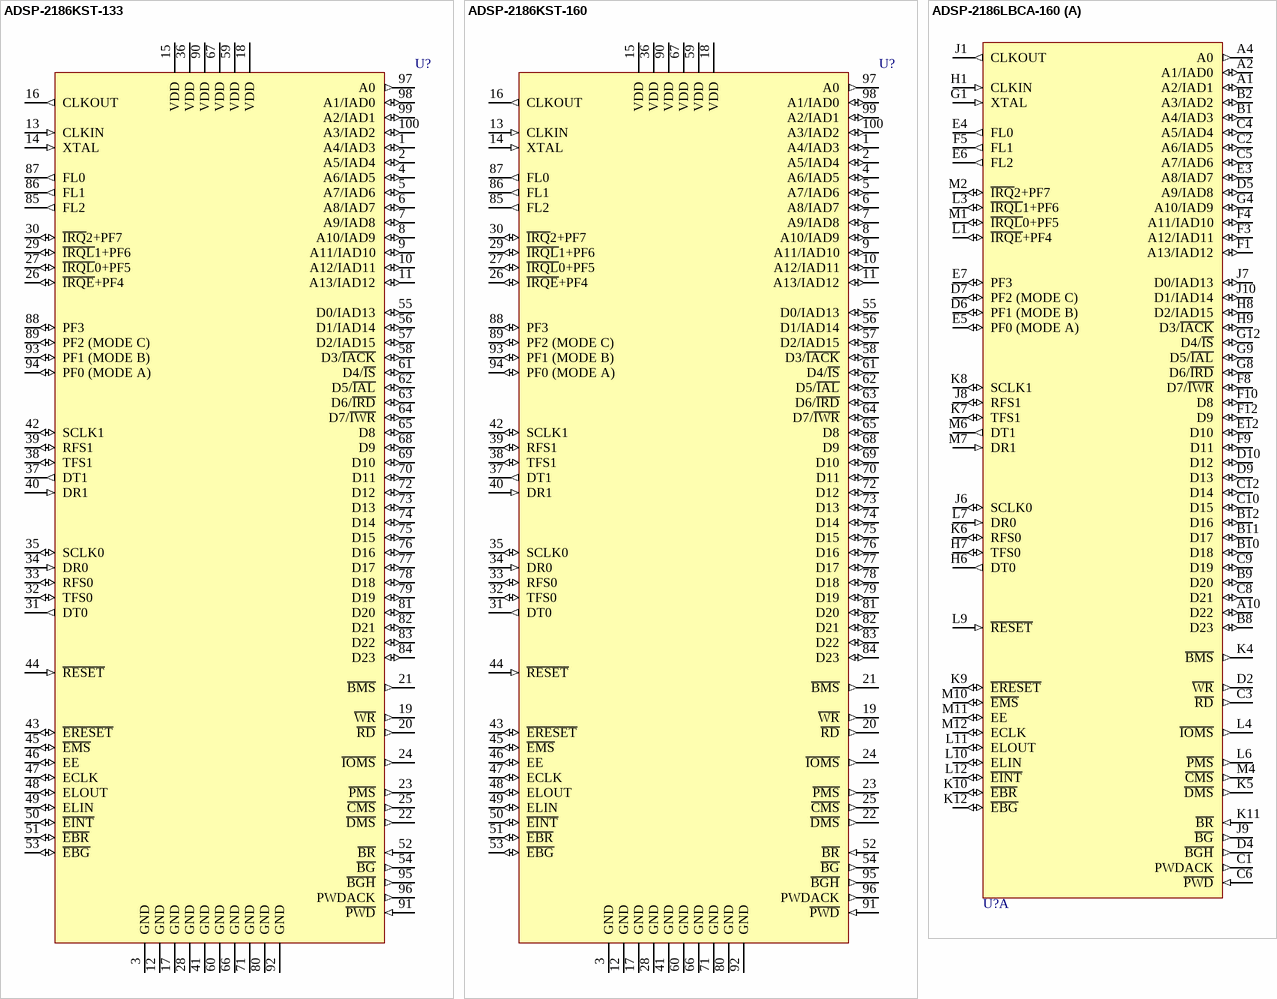
[diagram p39: symbols ADSP-2186KST-133 to ADSP-2186LBCA-160]

## ADSP-2186KST-133
designator U?
40 MIPS, 5V, 2 Serial Ports, Host Port, 40 KB RAM; Published: 24-Aug-2001; LatestRevisionDate: 13-Apr-2006; LatestRevisionNote: IPC-7351 Footprint Added.; DatasheetVersion: 1999; PackageVersion: 2000; PackageReference: ST-100; Publisher: Altium Limited; PackageDescription: 100-Pin Thin Plastic Quad Flat Pack 0.5 mm Pitch; ComponentLink1Description: Manufacturer Link; ComponentLink1URL: http://www.analog.com/; ComponentLink2Description: Datasheet; ComponentLink2URL: http://www.analog.com/UploadedFiles/Data_Sheets/48332071ADSP-2186_b.pdf
footprint ST-100_N (Thin QFP, 100-Leads, Body 14x14mm, Pitch 0.5mm, IPC Medium Density)
footprint ST-100_L (Thin QFP, 100-Leads, Body 14x14mm, Pitch 0.5mm, IPC High Density)
footprint ST-100_M (Thin QFP, 100-Leads, Body 14x14mm, Pitch 0.5mm, IPC Low Density)
3D model 2186-ST100 (100-Pin Thin Plastic Quad Flat Pack 0.5 mm Pitch)
pins: 1 A4/IAD3 (io), 2 A5/IAD4 (io), 3 GND (power), 4 A6/IAD5 (io), 5 A7/IAD6 (io), 6 A8/IAD7 (io), 7 A9/IAD8 (io), 8 A10/IAD9 (io), 9 A11/IAD10 (io), 10 A12/IAD11 (io), 11 A13/IAD12 (io), 12 GND (power), 13 CLKIN (in), 14 XTAL (in), 15 VDD (power), 16 CLKOUT (out), 17 GND (power), 18 VDD (power), 19 ~{WR} (out), 20 ~{RD} (out), 21 ~{BMS} (out), 22 ~{DMS} (out), 23 ~{PMS} (out), 24 ~{IOMS} (out), 25 ~{CMS} (out), 26 ~{IRQE}+PF4 (io), 27 ~{IRQL}0+PF5 (io), 28 GND (power), 29 ~{IRQL}1+PF6 (io), 30 ~{IRQ}2+PF7 (io), 31 DT0 (out), 32 TFS0 (io), 33 RFS0 (io), 34 DR0 (in), 35 SCLK0 (io), 36 VDD (power), 37 DT1 (out), 38 TFS1 (io), 39 RFS1 (io), 40 DR1 (in), 41 GND (power), 42 SCLK1 (io), 43 ~{ERESET} (io), 44 ~{RESET} (in), 45 ~{EMS} (io), 46 EE (io), 47 ECLK (io), 48 ELOUT (io), 49 ELIN (io), 50 ~{EINT} (io), 51 ~{EBR} (io), 52 ~{BR} (in), 53 ~{EBG} (io), 54 ~{BG} (out), 55 D0/IAD13 (io), 56 D1/IAD14 (io), 57 D2/IAD15 (io), 58 D3/~{IACK} (io), 59 VDD (power), 60 GND (power), 61 D4/~{IS} (io), 62 D5/~{IAL} (io), 63 D6/~{IRD} (io), 64 D7/~{IWR} (io), 65 D8 (io), 66 GND (power), 67 VDD (power), 68 D9 (io), 69 D10 (io), 70 D11 (io), 71 GND (power), 72 D12 (io), 73 D13 (io), 74 D14 (io), 75 D15 (io), 76 D16 (io), 77 D17 (io), 78 D18 (io), 79 D19 (io), 80 GND (power), 81 D20 (io), 82 D21 (io), 83 D22 (io), 84 D23 (io), 85 FL2 (out), 86 FL1 (out), 87 FL0 (out), 88 PF3 (io), 89 PF2 (MODE C) (io), 90 VDD (power), 91 ~{PWD} (in), 92 GND (power), 93 PF1 (MODE B) (io), 94 PF0 (MODE A) (io), 95 ~{BGH} (out), 96 PWDACK (out), 97 A0 (out), 98 A1/IAD0 (io), 99 A2/IAD1 (io), 100 A3/IAD2 (io)